# Altium schematic symbol library IC- копия.SchLib: 80 symbols
Pins are listed as number, name and electrical type; pins without a type are passive.

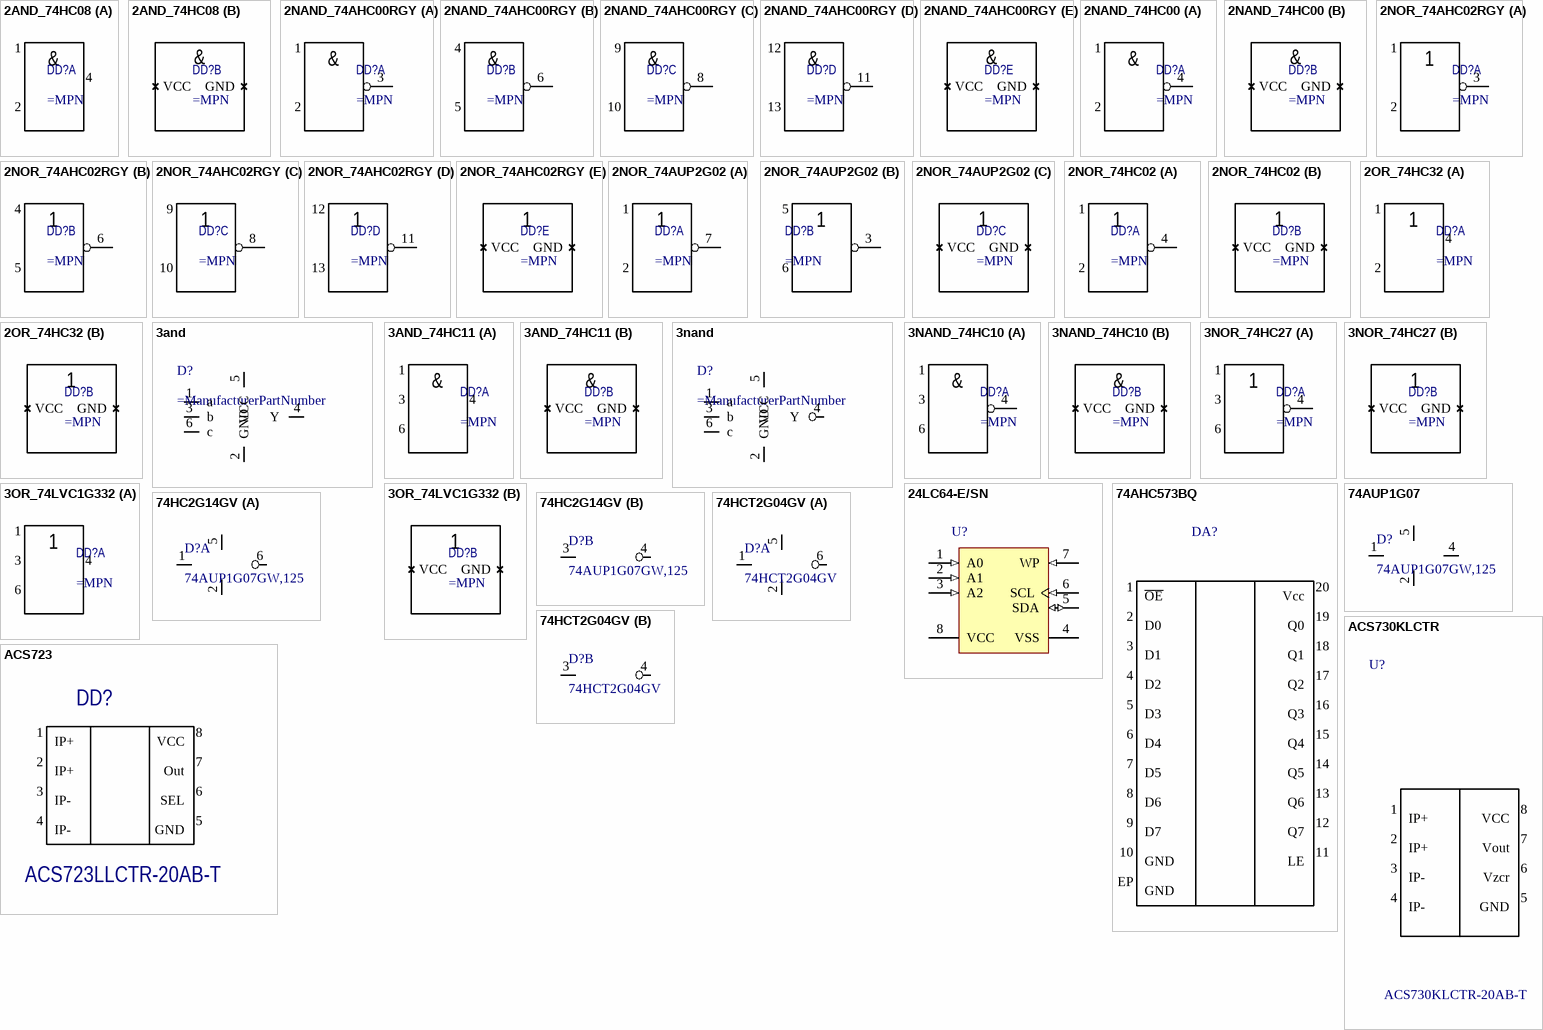
[diagram p0: symbols 2AND_74HC08 to ACS730KLCTR]

## 2AND_74HC08
designator DD?
part A pins: 1, 2, 4
part B pins: 3 GND, 5 VCC
part A text: &
part B text: &

## 2NAND_74AHC00RGY
designator DD?
part A pins: 1, 2, 3
part B pins: 4, 5, 6
part C pins: 8, 9, 10
part D pins: 11, 12, 13
part E pins: 7 GND, 14 VCC
part A text: &
part B text: &
part C text: &
part D text: &
part E text: &

## 2NAND_74HC00
designator DD?
part A pins: 1, 2, 4
part B pins: 3 GND, 5 VCC
part A text: &
part B text: &

## 2NOR_74AHC02RGY
designator DD?
part A pins: 1, 2, 3
part B pins: 4, 5, 6
part C pins: 8, 9, 10
part D pins: 11, 12, 13
part E pins: 7 GND, 14 VCC

## 2NOR_74AUP2G02
designator DD?
part A pins: 1, 2, 7
part B pins: 3, 5, 6
part C pins: 4 GND, 8 VCC

## 2NOR_74HC02
designator DD?
part A pins: 1, 2, 4
part B pins: 3 GND, 5 VCC

## 2OR_74HC32
designator DD?
part A pins: 1, 2, 4
part B pins: 3 GND, 5 VCC

## 3and
designator D?
pins: 1 a, 2 GND, 3 b, 4 Y, 5 VCC, 6 c

## 3AND_74HC11
designator DD?
part A pins: 1, 3, 4, 6
part B pins: 2 GND, 5 VCC
part A text: &
part B text: &

## 3nand
designator D?
pins: 1 a, 2 GND, 3 b, 4 Y, 5 VCC, 6 c

## 3NAND_74HC10
designator DD?
part A pins: 1, 3, 4, 6
part B pins: 2 GND, 5 VCC
part A text: &
part B text: &

## 3NOR_74HC27
designator DD?
part A pins: 1, 3, 4, 6
part B pins: 2 GND, 5 VCC

## 3OR_74LVC1G332
designator DD?
part A pins: 1, 3, 4, 6
part B pins: 2 GND, 5 VCC

## 24LC64-E/SN
designator U?
64Kbit, 400kHz, 2.5V, I2C Serial EEPROM, 8-Pin SOIC 150mil, Extended Temperature; Manufacturer: Microchip; PartNumber: 24LC64-E/SN; DatasheetVersion: revQ, Jun-2009; PackageVersion: revBB, Aug-2009; PackageReference: SOIC-SN8; PackageDescription: 8-Lead Plastic Small Outline (SN) - Narrow, 3.90mm Body [SOIC]; Supplier 1: Digi-Key; Supplier Part Number 1: 24LC64-E/SN-ND; Supplier 2: Newark; Supplier Part Number 2: 92C7217; Supplier 3: Mouser; Supplier Part Number 3: 579-24LC64-E/SN; Mounting Technology: Surface Mount; Code_JEDEC: MS-012; Code_IPC: SOIC127P600-8; ComponentLink1Description: Manufacturer URL; ComponentLink1URL: http://www.microchip.com/; ComponentLink2Description: Datasheet; ComponentLink2URL: http://ww1.microchip.com/downloads/en/DeviceDoc/21189Q.pdf; ComponentLink3Description: Package Specification; ComponentLink3URL: http://www.microchip.com/stellent/groups/techpub_sg/documents/packagingspec/en012702.pdf
footprint SOIC-SN8_N (SOIC, 8-Leads, Body 4.9x3.8mm, Pitch 1.27mm, IPC Medium Density)
footprint SOIC-SN8_L (SOIC, 8-Leads, Body 4.9x3.8mm, Pitch 1.27mm, IPC High Density)
footprint SOIC-SN8_M (SOIC, 8-Leads, Body 4.9x3.8mm, Pitch 1.27mm, IPC Low Density)
footprint SO-8 (SOIC-8N,  IPC Medium Density)
pins: 1 A0 (in), 2 A1 (in), 3 A2 (in), 4 VSS (power), 5 SDA (io), 6 SCL (in), 7 WP (in), 8 VCC (power)

## 74AHC573BQ
designator DA?
pins: 1 ~{OE}, 2 D0, 3 D1, 4 D2, 5 D3, 6 D4, 7 D5, 8 D6, 9 D7, 10 GND, 11 LE, 12 Q7, 13 Q6, 14 Q5, 15 Q4, 16 Q3, 17 Q2, 18 Q1, 19 Q0, 20 Vcc, EP GND

## 74AUP1G07
designator D?, comment 74AUP1G07GW,125
analogue: 74AUP1G07SE-7; ManufacturerPartNumber: 74AUP1G07GW,125; Digikey: https://www.digikey.com/product-detail/en/nexperia-usa-inc/74AUP1G07GW,125/1727-6809-2-ND/1300720
footprint SC70-5 (SC70, IPC Medium Density)
pins: 1 In, 2 GND, 4 OUT, 5 VCC

## 74HC2G14GV
designator D?, comment 74AUP1G07GW,125
analogue: 74AUP1G07SE-7; ManufacturerPartNumber: 74AUP1G07GW,125; Digikey: https://www.digikey.com/product-detail/en/nexperia-usa-inc/74AUP1G07GW,125/1727-6809-2-ND/1300720
footprint sot23-6 (SOT23, 6-Leads, IPC Medium Density)
part A pins: 1 In, 2 GND, 5 VCC, 6 OUT1
part B pins: 3 In, 4 OUT1

## 74HCT2G04GV
designator D?
ManufacturerPartNumber: 74HCT2G04GV; analogue: 74HCT2G04GV; Digikey: https://www.digikey.com/product-detail/en/nexperia-usa-inc/74AUP1G07GW,125/1727-6809-2-ND/1300720
footprint sot23-6 (SOT23, 6-Leads, IPC Medium Density)
part A pins: 1 In, 2 GND, 5 VCC, 6 OUT1
part B pins: 3 In, 4 OUT1

## ACS723
designator DD?, comment ACS723LLCTR-20AB-T
High Accuracy, Galvanically Isolated Current Sensor IC; Component Package: SOIC8; HelpURL: C:\DATASHEET\Sensor\ACS723.pdf; Component Name: ACS723LLCTR-20AB-T
footprint SOIC8 (SOIC, 8-Leads, Body 4,9x3,9mm (max), Pitch 1,27mm, IPC Medium Density)
pins: 1 IP+, 2 IP+, 3 IP-, 4 IP-, 5 GND, 6 SEL, 7 Out, 8 VCC

## ACS730KLCTR
designator U?, comment ACS730KLCTR-20AB-T
Galvanically Isolated Current Sensor IC; MPN: ACS730KLCTR-20AB-T
footprint SO-8 (SOIC-8N,  IPC Medium Density)
pins: 1 IP+, 2 IP+, 3 IP-, 4 IP-, 5 GND, 6 Vzcr, 7 Vout, 8 VCC

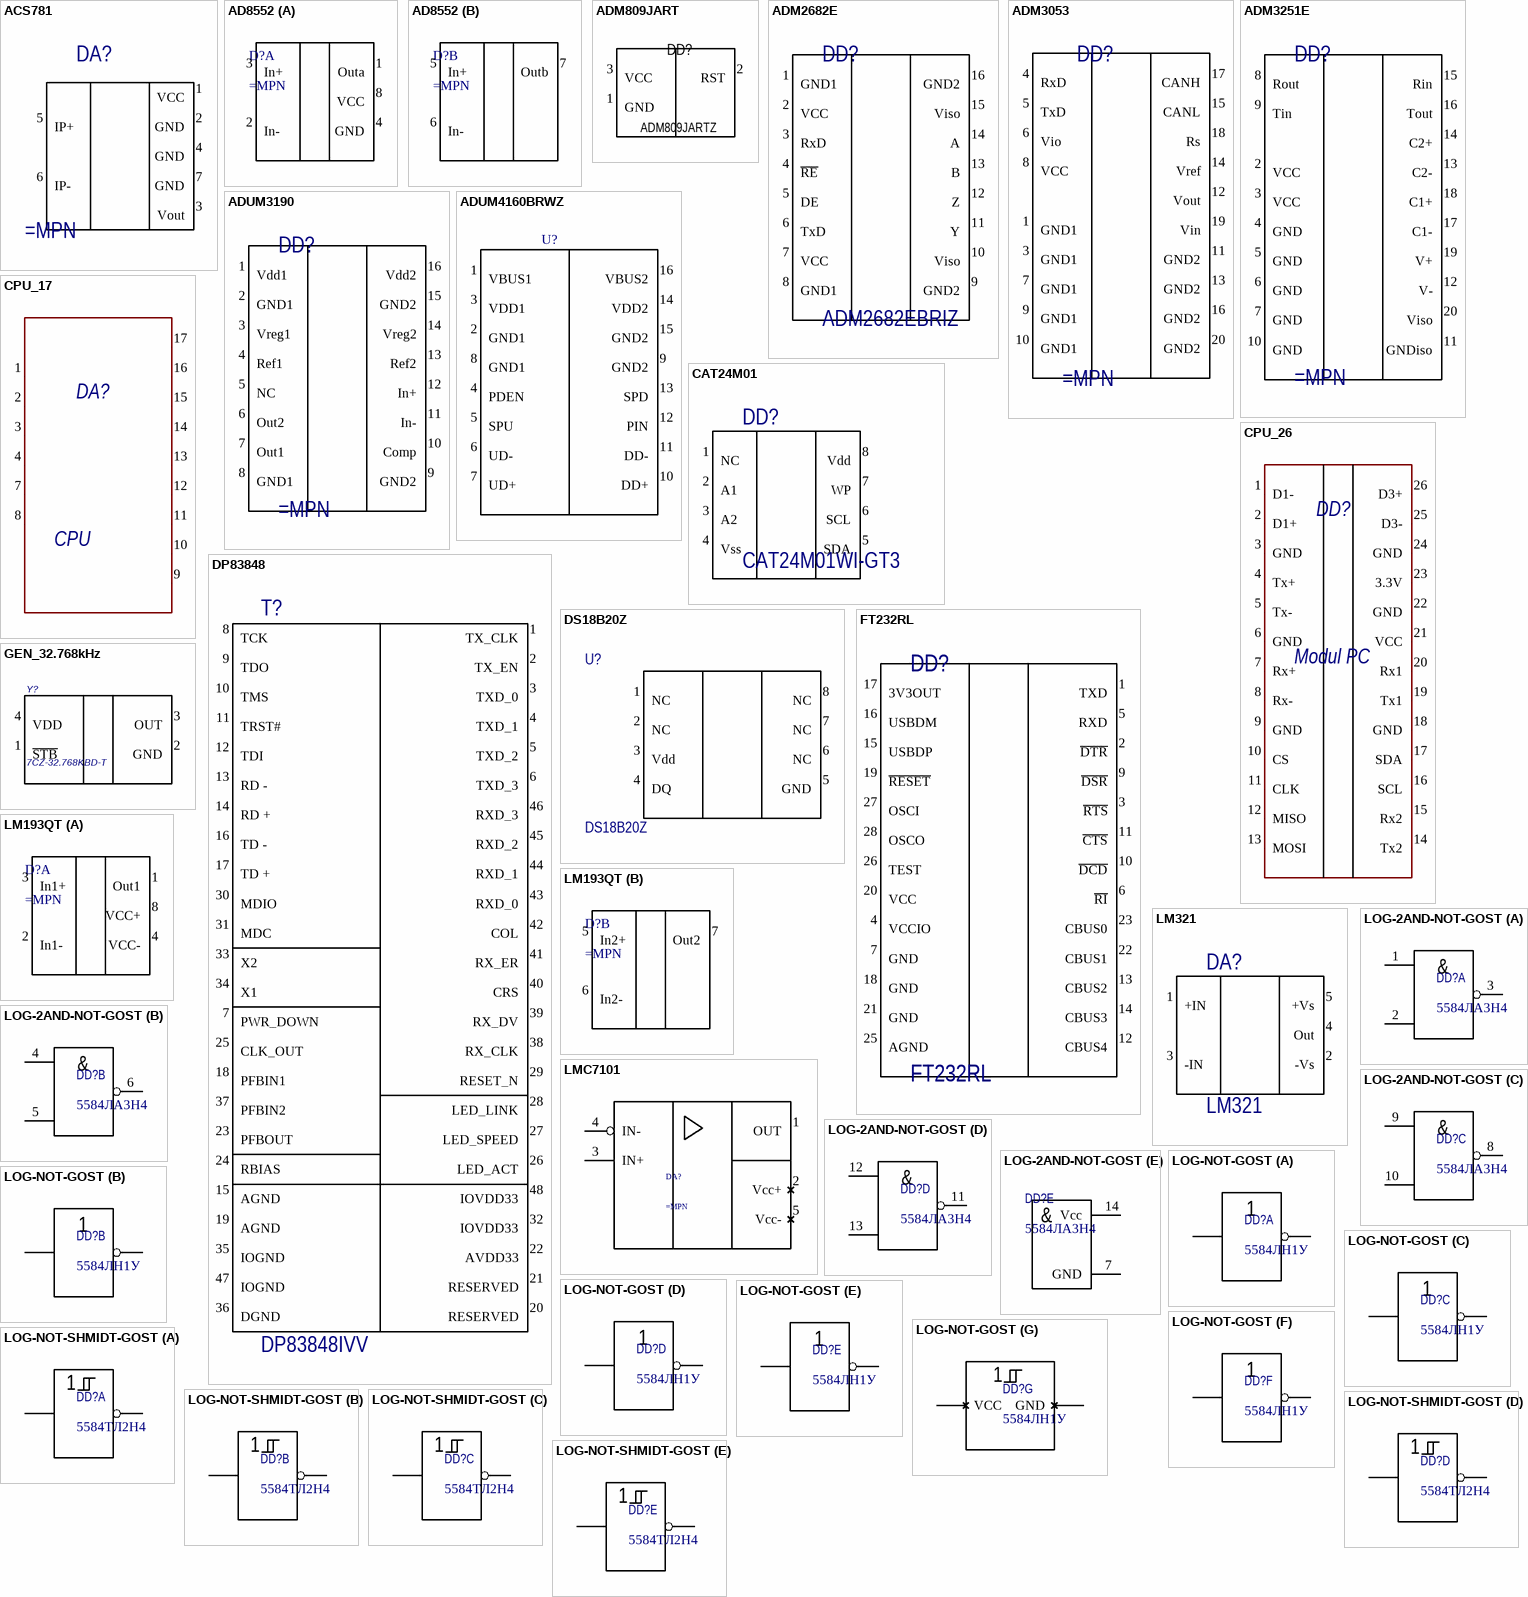
[diagram p1: symbols ACS781 to LOG-NOT-SHMIDT-GOST]

## ACS781
designator DA?
pins: 1 VCC, 2 GND, 3 Vout, 4 GND, 5 IP+, 6 IP-, 7 GND

## AD8552
designator D?
part A pins: 1 Outa, 2 In-, 3 In+, 4 GND, 8 VCC
part B pins: 5 In+, 6 In-, 7 Outb

## ADM809JART
designator DD?, comment ADM809JARTZ
Микросхема ADM809ZART Analog Devices; MPN: ADM809JARTZ
footprint SOT23-3 (SOT23-3, IPC Medium Density)
pins: 1 GND, 2 RST, 3 VCC

## ADM2682E
designator DD?, comment ADM2682EBRIZ
Signal and Power Isolated / RS-485 Transceiver; Component Package: SOIC16 Narrow 3.90mm Width; Component Name: ADM2682EBRIZ; HelpURL: C:\DATASHEET\Driver\ADM2682E.pdf; ComponentLink1Description: DataSheet; ComponentLink1URL: C:\DATASHEET\Driver\ADM2682E.pdf
footprint SOIC16 (max232) (16-Pin Small Outline Integrated Circuit 1.27 mm Pitch, IPC Medium Density)
pins: 1 GND1 "Ground, Logic Side.", 2 VCC "Logic Side Power Supply", 3 RxD "Receiver Output Data", 4 ~{RE} "Receiver Enable Input", 5 DE "Driver Enable Input", 6 TxD "Driver Input", 7 VCC "Logic Side Power Supply", 8 GND1 "Ground, Logic Side", 9 GND2 "Ground, Bus Side", 10 Viso "Isolated Power Supply Output", 11 Y "Driver Noninverting Output", 12 Z "Driver Inverting Output", 13 B "Receiver Inverting Input", 14 A "Receiver Noninverting Input", 15 Viso "Isolated Power Supply Input", 16 GND2 "Ground, Bus Side"

## ADM3053
designator DD?
Isolated CAN Transceiver; Component Name: ADM3053BRWZ; Component Package: SOIC, 20-Leads, Body 12,80x7,50mm, Pitch 1,27mm, IPC Medium Density; HelpURL: C:\DATASHEET\Driver\ADM3053.pdf; ComponentLink1Description: DataSheet; ComponentLink1URL: C:\DATASHEET\Driver\ADM3053.pdf
footprint SOIC20 (SOIC, 20-Leads, Body 12,80x7,50mm, Pitch 1,27mm, IPC Medium Density)
pins: 1 GND1 "Ground, Logic Side.", 2 NC (hiz) hidden "No Connect", 3 GND1 "Ground, Logic Side.", 4 RxD "Receiver Output Data.C2+", 5 TxD "C2-", 6 Vio "iCoupler Power Supply", 7 GND1 "Ground, Logic Side.", 8 VCC "Power Supply", 9 GND1 "Ground, Logic Side.", 10 GND1 "Ground, Logic Side.", 11 GND2 "Ground, Logic Side.", 12 Vout "Power Supply Output", 13 GND2 "Ground, Logic Side.", 14 Vref "Reference Voltage Output", 15 CANL "Low-Level CAN Voltage Input/Output", 16 GND2 "Ground, Logic Side.", 17 CANH "High-Level CAN Voltage Input/Output", 18 Rs "Slope Control Pin", 19 Vin "Isolated Power Supply Input", 20 GND2 "Ground, Logic Side."

## ADM3251E
designator DD?
Isolated, Single-Channel / RS-232 Line Driver/Receiver; Component Name: ADM3251EARWZ; Component Package: SOIC, 20-Leads, Body 12,80x7,50mm, Pitch 1,27mm, IPC Medium Density; HelpURL: C:\DATASHEET\Driver\ADM3251E.pdf; ComponentLink1Description: DataSheet; ComponentLink1URL: C:\DATASHEET\Driver\ADM3251E.pdf
footprint SOIC20 (SOIC, 20-Leads, Body 12,80x7,50mm, Pitch 1,27mm, IPC Medium Density)
pins: 1 NC hidden "Ground, Logic Side.", 2 NC (hiz) hidden "No Connect", 2 VCC "Power Supply Input", 3 VCC "Power Supply Input", 4 GND "Ground,", 5 GND "Ground", 6 GND "Ground", 7 GND "Ground", 8 Rout "Receiver Output", 9 Tin "Transmitter (Driver) Input", 10 GND "Ground", 11 GNDiso "Ground Reference for Isolated RS-232 Side.", 12 V- "Internally Generated Negative Supply", 13 C2- "Negative Connections for Charge Pump Capacitors", 14 C2+ "Positive Connections for Charge Pump Capacitors", 15 Rin "Receiver Input. This input accepts RS-232 signal levels.", 16 Tout "Transmitter (Driver) Output. This outputs RS-232 signal levels.", 17 C1- "Negative Connections for Charge Pump Capacitors.", 18 C1+ "Positive Connections for Charge Pump Capacitors.", 19 V+ "Internally Generated Positive Supply", 20 Viso "Isolated Supply Voltage"

## ADUM3190
designator DD?
ComponentLink1Description: DataSheet; ComponentLink1URL: C:\DATASHEET\Driver\ADM2682E.pdf
pins: 1 Vdd1 "Ground, Logic Side.", 2 GND1 "Logic Side Power Supply", 3 Vreg1 "Receiver Output Data", 4 Ref1 "Receiver Enable Input", 5 NC "Driver Enable Input", 6 Out2 "Driver Input", 7 Out1 "Logic Side Power Supply", 8 GND1 "Ground, Logic Side", 9 GND2 "Ground, Bus Side", 10 Comp "Isolated Power Supply Output", 11 In- "Driver Noninverting Output", 12 In+ "Driver Inverting Output", 13 Ref2 "Receiver Inverting Input", 14 Vreg2 "Receiver Noninverting Input", 15 GND2 "Isolated Power Supply Input", 16 Vdd2 "Ground, Bus Side"

## ADUM4160BRWZ
designator U?  (value not drawn)
Digital isolator; 3.1Г·5.5VDC; Interface: USB; SMD; SO16; MPN: ADUM4160BRWZ
footprint SOIC16W (ADUM4160_SOIC127P1032X265-16)
pins: 1 VBUS1, 2 GND1, 3 VDD1, 4 PDEN, 5 SPU, 6 UD-, 7 UD+, 8 GND1, 9 GND2, 10 DD+, 11 DD-, 12 PIN, 13 SPD, 14 VDD2, 15 GND2, 16 VBUS2

## CAT24M01
designator DD?, comment CAT24M01WI-GT3
IC EEPROM 1M I2C 1MHZ 8SOIC; Component Package: DFN-8; MPN: CAT24M01WI-GT3
footprint SO-8 (SOIC-8N,  IPC Medium Density)
pins: 1 NC "Noninverting input", 2 A1 "Noninverting input", 3 A2 "Noninverting input", 4 Vss "Noninverting input", 5 SDA "Noninverting input", 6 SCL "Noninverting input", 7 WP "Noninverting input", 8 Vdd "Positive (highest) power supply"

## CPU_17
designator DA?, comment CPU
Модуль вычислительный
footprint PWR100W (один выход)
pins: 1, 2, 3, 4, 7, 8, 9, 10, 11, 12, 13, 14, 15, 16, 17

## CPU_26
designator DD?, comment Modul PC
Модуль вычислительный; MPN: Modul PC
footprint PWR100W_26pin (Modul CPU 26 PIN)
pins: 1 D1- "USB1 D-", 2 D1+ "USB1 D+", 3 GND, 4 Tx+ "Eth pin1", 5 Tx- "Eth pin2", 6 GND, 7 Rx+ "Eth pin4", 8 Rx- "Eth pin4", 9 GND, 10 CS "SPi1 chip select", 11 CLK "SPi1 Clock", 12 MISO "SPi MISO", 13 MOSI "SPi MOSI", 14 Tx2 "UART2 Tx", 15 Rx2 "UART2 Rx", 16 SCL "I2C0 SCL", 17 SDA "I2C0 SDA", 18 GND, 19 Tx1 "UART1 Tx", 20 Rx1 "UART1 Rx", 21 VCC "input 5V PWR", 22 GND, 23 3.3V "output 3v3 up to 700mA", 24 GND, 25 D3- "USB3 D-", 26 D3+ "USB3 D+"

## DP83848
designator T?, comment DP83848IVV
Ethernet Physical Layer Transceiver; Component Package: LQFP48; Component Name: DP83848IVV; HelpURL: C:\DATASHEET\Ethernet\snla106b.pdf; ComponentLink1Description: DataSheet; ComponentLink1URL: C:\DATASHEET\Ethernet\dp83848i.pdf
footprint LQFP48 (SQFP, 48-Leads, Body 9,1x9,1mm (max), Pitch 0,50mm, IPC Medium Density)
pins: 1 TX_CLK, 2 TX_EN, 3 TXD_0, 4 TXD_1, 5 TXD_2, 6 TXD_3 "TXD_3/SNI_MODE", 7 PWR_DOWN "PWR_DOWN/INT", 8 TCK, 9 TDO, 10 TMS, 11 TRST#, 12 TDI, 13 RD -, 14 RD +, 15 AGND, 16 TD -, 17 TD +, 18 PFBIN1, 19 AGND, 20 RESERVED, 21 RESERVED, 22 AVDD33, 23 PFBOUT, 24 RBIAS, 25 CLK_OUT, 26 LED_ACT "LED_ACT/COL/AN_EN", 27 LED_SPEED "LED_SPEED/AN1", 28 LED_LINK "LED_LINK/AN0", 29 RESET_N, 30 MDIO, 31 MDC, 32 IOVDD33, 33 X2, 34 X1, 35 IOGND, 36 DGND, 37 PFBIN2, 38 RX_CLK, 39 RX_DV "RX_DV/MII_MODE", 40 CRS "CRS/CRS_DV/LED_CFG", 41 RX_ER "RX_ER/MDIX_EN", 42 COL "COL/PHYAD0", 43 RXD_0 "RXD_0/PHYAD1", 44 RXD_1 "RXD_1/PHYAD2", 45 RXD_2 "RXD_2/PHYAD3", 46 RXD_3 "RXD_3/PHYAD4", 47 IOGND, 48 IOVDD33

## DS18B20Z
designator U?
MPN: DS18B20Z
footprint SO8_M (SOIC, 8-Leads, Body 4.9x3.9mm, Pitch 1.27mm, IPC Low Density)
pins: 1 NC, 2 NC, 3 Vdd, 4 DQ, 5 GND, 6 NC, 7 NC, 8 NC

## FT232RL
designator DD?
FT232RQ (SSOP-28); MPN: FT232RL
footprint SSOP-28 (SOP, 28-Leads, Body 10,5x5,3mm (max), Pitch 0,65mm, IPC Medium Density)
pins: 1 TXD, 2 ~{DTR} "DTR", 3 ~{RTS} "RTS", 4 VCCIO, 5 RXD, 6 ~{RI} "RI", 7 GND, 8 NC (hiz) hidden, 9 ~{DSR} "DSR", 10 ~{DCD} "DCD", 11 ~{CTS} "CTS", 12 CBUS4, 13 CBUS2, 14 CBUS3, 15 USBDP, 16 USBDM, 17 3V3OUT, 18 GND, 19 ~{RESET} "RESET", 20 VCC, 21 GND, 22 CBUS1, 23 CBUS0, 24 NC (hiz) hidden, 25 AGND, 26 TEST, 27 OSCI, 28 OSCO

## GEN_32.768kHz
designator Y?, comment 7CZ-32.768KBD-T
Value: 32.768kHz; Operating Temperature: -40°C ~ 85°C; MPN: 7CZ-32.768KBD-T
footprint 3.2x2.5 (KX7T)
footprint 5x3.2 (Footprint not found)
pins: 1 ~{STB}, 2 GND, 3 OUT, 4 VDD

## LM193QT
designator D?
part A pins: 1 Out1, 2 In1-, 3 In1+, 4 VCC-, 8 VCC+
part B pins: 5 In2+, 6 In2-, 7 Out2

## LM321
designator DA?
Low Power Single Operational Amplifier (SOT-23); Component Name: LM321MF; Component Package: SOT-23; HelpURL: C:\DATASHEET\OP_AMP\lm321.pdf
footprint SOT23-5 (SOT23, 5-Leads, Body 2,92x2,80mm, Pitch 0,95mm, IPC Medium Density)
pins: 1 +IN "Noninverting input", 2 -Vs "Negative (lowest) power supply", 3 -IN "Inverting input", 4 Out "Output", 5 +Vs "Positive (highest) power supply"

## LMC7101
designator DA?
pins: 1 OUT, 2 Vcc+, 3 IN+, 4 IN-, 5 Vcc-

## LOG-2AND-NOT-GOST
designator DD?, comment 5584ЛА3Н4
MPN: 5584ЛА3Н4
part A pins: 1, 2, 3
part B pins: 4, 5, 6
part C pins: 8, 9, 10
part D pins: 11, 12, 13
part E pins: 7 GND (power), 14 Vcc
part A text: &
part B text: &
part C text: &
part D text: &
part E text: &

## LOG-NOT-GOST
designator DD?, comment 5584ЛН1У
MPN: 5584ЛН1У
part A pins: I4 7, O4 8
part B pins: I1 1, O1 2
part C pins: I5 9, O5 10
part D pins: I6 11, O6 12
part E pins: I2 3, O2 4
part F pins: I3 5, O3 6
part G pins: 7 GND, 14 VCC

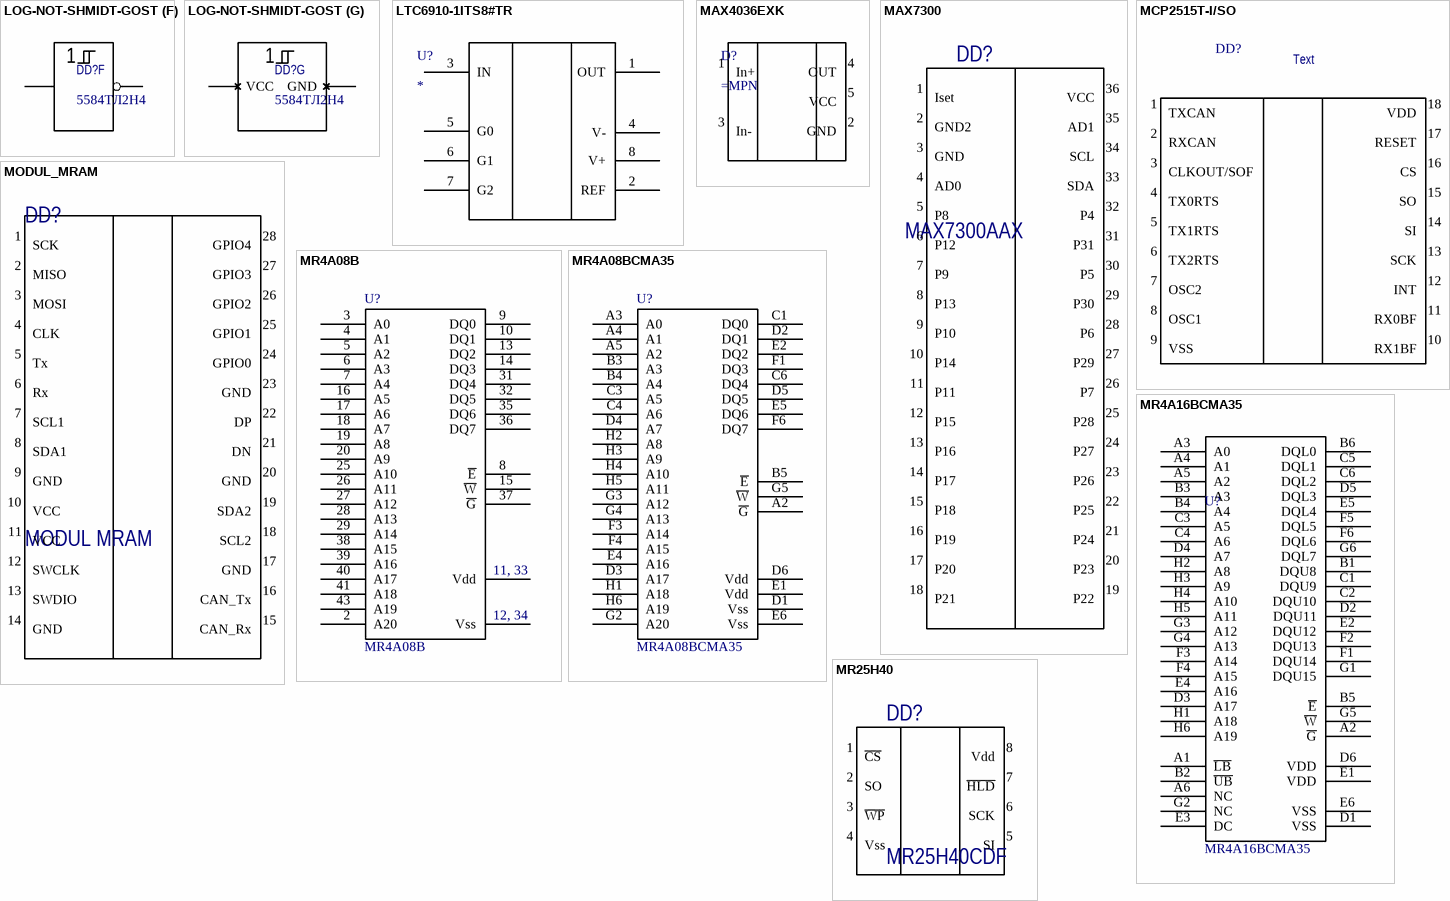
[diagram p2: symbols LOG-NOT-SHMIDT-GOST to MR25H40]

## LOG-NOT-SHMIDT-GOST
designator DD?, comment 5584ТЛ2Н4
MPN: 5584ТЛ2Н4
part A pins: I4 7, O4 8
part B pins: I1 1, O1 2
part C pins: I5 9, O5 10
part D pins: I6 11, O6 12
part E pins: I2 3, O2 4
part F pins: I3 5, O3 6
part G pins: 7 GND, 14 VCC

## LTC6910-1ITS8#TR
designator U?
Imported; Manufacturer_Part_Number: LTC6910-1ITS8#TRMPBF; Built_By: EMA_UL_Team; Vendor: Linear Technology; Value: Value; Type: Type; RefDes: RefDes
footprint TSOP23-8 (TSOP, 8-Leads, Body 2,90x1,75mm, Pitch 0,65mm, IPC High Density)
pins: 1 OUT, 2 REF (power), 3 IN, 4 V- (power), 5 G0, 6 G1, 7 G2, 8 V+ (power)

## MAX4036EXK
designator D?
pins: 1 In+, 2 GND, 3 In-, 4 OUT, 5 VCC

## MAX7300
designator DD?, comment MAX7300AAX
28-Port I/O Expander 2-Wire-Interfaced, 2.5V to 5.5V; MPN: MAX7300AAX
footprint SSOP36 (MAX7300, MAX7301)
pins: 1 Iset (power), 2 GND2 (power), 3 GND (power), 4 AD0 (power), 5 P8 (power), 6 P12 (power), 7 P9 (power), 8 P13 (power), 9 P10 (power), 10 P14 (power), 11 P11 (power), 12 P15 (power), 13 P16 (power), 14 P17 (power), 15 P18 (power), 16 P19 (power), 17 P20 (power), 18 P21 (power), 19 P22 (power), 20 P23 (power), 21 P24 (power), 22 P25 (power), 23 P26 (power), 24 P27 (power), 25 P28 (power), 26 P7 (power), 27 P29 (power), 28 P6 (power), 29 P30 (power), 30 P5 (power), 31 P31 (power), 32 P4 (power), 33 SDA (power), 34 SCL (power), 35 AD1 (power), 36 VCC (power)

## MCP2515T-I/SO
designator DD?
pins: 1 TXCAN, 2 RXCAN, 3 CLKOUT/SOF, 4 TX0RTS, 5 TX1RTS, 6 TX2RTS, 7 OSC2, 8 OSC1, 9 VSS, 10 RX1BF, 11 RX0BF, 12 INT, 13 SCK, 14 SI, 15 SO, 16 CS, 17 RESET, 18 VDD
text: Text

## MODUL_MRAM
designator DD?, comment MODUL MRAM
MPN: MODUL MRAM
footprint MODUL_MRAM
pins: 1 NC hidden "Ground, Logic Side.", 1 SCK "SPi1_SCK", 2 NC (hiz) hidden "No Connect", 2 MISO "SPi1_MISO", 3 MOSI "SPi1_MOSI", 4 CLK "USART1_SCK", 5 Tx "USART1_Tx", 6 Rx "USART1_Rx", 7 SCL1, 8 SDA1, 9 GND, 10 VCC "3v3", 11 VCC "3v3", 12 SWCLK, 13 SWDIO, 14 GND, 15 CAN_Rx, 16 CAN_Tx, 17 GND, 18 SCL2, 19 SDA2, 20 GND, 21 DN "USB D-", 22 DP "USB D+", 23 GND, 24 GPIO0 "GPIO", 25 GPIO1 "GPIO", 26 GPIO2 "Receiver Input. This input accepts RS-232 signal levels.", 27 GPIO3 "GPIO", 28 GPIO4 "GPIO"

## MR4A08B
designator U?
EverSpin 2M x 8 bit MRAM; Vdd: 3.0...3.6V; Tread: 35ns
footprint 44-TSOP2
pins: 2 A20, 3 A0, 4 A1, 5 A2, 6 A3, 7 A4, 8 ~{E}, 9 DQ0, 10 DQ1, 11 Vdd, 12 Vss, 13 DQ2, 14 DQ3, 15 ~{W}, 16 A5, 17 A6, 18 A7, 19 A8, 20 A9, 25 A10, 26 A11, 27 A12, 28 A13, 29 A14, 31 DQ4, 32 DQ5, 33 Vdd, 34 Vss, 35 DQ6, 36 DQ7, 37 ~{G}, 38 A15, 39 A16, 40 A17, 41 A18, 43 A19
text: 11, 33; 12, 34

## MR4A08BCMA35
designator U?
EverSpin 2M x 8 bit MRAM; Vdd: 3.0...3.6V; Tread: 35ns; MPN: MR4A08BCMA35; URL: https://www.everspin.com/search/google/MR4A08BC
footprint 48BGA10X10 (BGA, 48-Leads, Body 10.00x10.00mmx1.35mm, Pitch 0.75mm)
pins: A1 DC hidden, A2 ~{G}, A3 A0, A4 A1, A5 A2, A6 DC hidden, B1 NC hidden, B2 DC hidden, B3 A3, B4 A4, B5 ~{E}, B6 DC hidden, C1 DQ0, C2 NC hidden, C3 A5, C4 A6, C5 NC hidden, C6 DQ4, D1 Vss, D2 DQ1, D3 A17, D4 A7, D5 DQ5, D6 Vdd, E1 Vdd, E2 DQ2, E3 DC hidden, E4 A16, E5 DQ6, E6 Vss, F1 DQ3, F2 NC hidden, F3 A14, F4 A15, F5 NC hidden, F6 DQ7, G1 NC hidden, G2 A20, G3 A12, G4 A13, G5 ~{W}, G6 NC hidden, H1 A18, H2 A8, H3 A9, H4 A10, H5 A11, H6 A19

## MR4A16BCMA35
designator U?
EverSpin 2M x 8 bit MRAM; Vdd: 3.0...3.6V; Tread: 35ns; MPN: MR4A16BCMA35; URL: https://www.everspin.com/family/mr4a16b
footprint 48BGA10X10 (BGA, 48-Leads, Body 10.00x10.00mmx1.35mm, Pitch 0.75mm)
pins: A1 ~{LB}, A2 ~{G}, A3 A0, A4 A1, A5 A2, A6 NC, B1 DQU8, B2 ~{UB}, B3 A3, B4 A4, B5 ~{E}, B6 DQL0, C1 DQU9, C2 DQU10, C3 A5, C4 A6, C5 DQL1, C6 DQL2, D1 VSS, D2 DQU11, D3 A17, D4 A7, D5 DQL3, D6 VDD, E1 VDD, E2 DQU12, E3 DC, E4 A16, E5 DQL4, E6 VSS, F1 DQU14, F2 DQU13, F3 A14, F4 A15, F5 DQL5, F6 DQL6, G1 DQU15, G2 NC, G3 A12, G4 A13, G5 ~{W}, G6 DQL7, H1 A18, H2 A8, H3 A9, H4 A10, H5 A11, H6 A19

## MR25H40
designator DD?, comment MR25H40CDF
Component Package: DFN-8; Component Name: MR25H40; HelpURL: C:\DATASHEET\OP_AMP\lm321.pdf; MPN: MR25H40CDF
footprint DFN-SFP (DFN Small Flag Package)
pins: 1 ~{CS} "Noninverting input", 2 SO "Noninverting input", 3 ~{WP} "Noninverting input", 4 Vss "Noninverting input", 5 SI "Noninverting input", 6 SCK "Noninverting input", 7 ~{HLD} "Noninverting input", 8 Vdd "Positive (highest) power supply"

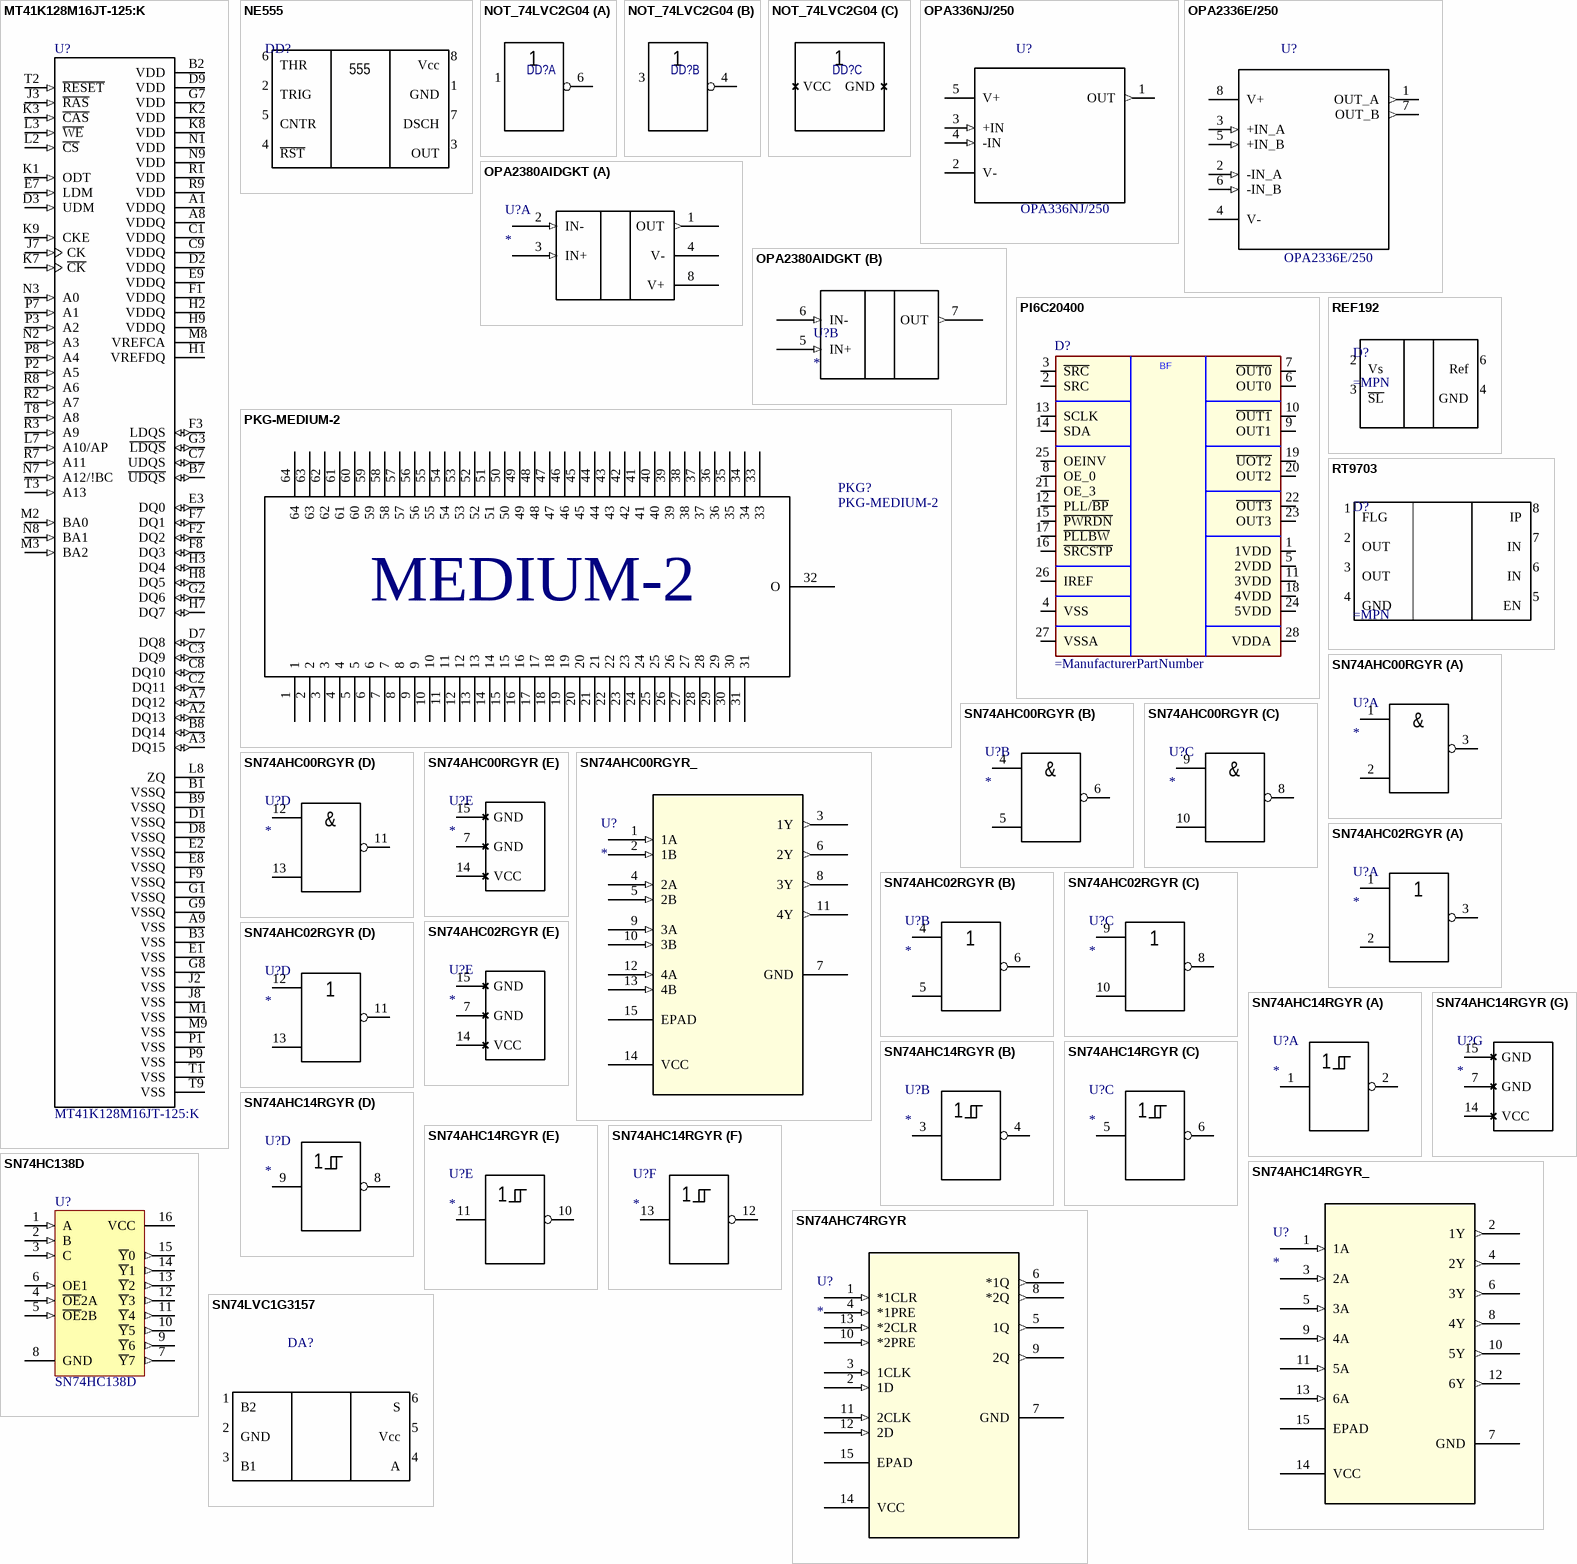
[diagram p3: symbols MT41K128M16JT-125:K to SN74LVC1G3157]

## MT41K128M16JT-125:K
designator U?
DRAM Chip DDR3L SDRAM 2G-Bit 128Mx16 1.35V 96-Pin FBGA; MF: Micron Technology; Package: TFBGA-96 Micron; Price: 4.85 USD; MP: MT41K128M16JT-125:K; SnapEDA_Link: https://www.snapeda.com/parts/MT41K128M16JT-125%3AK/Micron%20Technology%20Inc/view-part/?ref=snap; Availability: Good; Value: *
footprint BGA80P96C6X16_800X1400X110_MT41K128M16JT-125:K(Primary)
pins: A1 VDDQ (power), A2 DQ13 (io), A3 DQ15 (io), A7 DQ12 (io), A8 VDDQ (power), A9 VSS, B1 VSSQ, B2 VDD (power), B3 VSS, B7 ~{UDQS} (io), B8 DQ14 (io), B9 VSSQ, C1 VDDQ (power), C2 DQ11 (io), C3 DQ9 (io), C7 UDQS (io), C8 DQ10 (io), C9 VDDQ (power), D1 VSSQ, D2 VDDQ (power), D3 UDM (in), D7 DQ8 (io), D8 VSSQ, D9 VDD (power), E1 VSS, E2 VSSQ, E3 DQ0 (io), E7 LDM (in), E8 VSSQ, E9 VDDQ (power), F1 VDDQ (power), F2 DQ2 (io), F3 LDQS (io), F7 DQ1 (io), F8 DQ3 (io), F9 VSSQ, G1 VSSQ, G2 DQ6 (io), G3 ~{LDQS} (io), G7 VDD (power), G8 VSS, G9 VSSQ, H1 VREFDQ (power), H2 VDDQ (power), H3 DQ4 (io), H7 DQ7 (io), H8 DQ5 (io), H9 VDDQ (power), J2 VSS, J3 ~{RAS} (in), J7 CK (in), J8 VSS, K1 ODT (in), K2 VDD (power), K3 ~{CAS} (in), K7 ~{CK} (in), K8 VDD (power), K9 CKE (in), L2 ~{CS} (in), L3 ~{WE} (in), L7 A10/AP (in), L8 ZQ, M1 VSS, M2 BA0 (in), M3 BA2 (in), M8 VREFCA (power), M9 VSS, N1 VDD (power), N2 A3 (in), N3 A0 (in), N7 A12/!BC (in), N8 BA1 (in), N9 VDD (power), P1 VSS, P2 A5 (in), P3 A2 (in), P7 A1 (in), P8 A4 (in), P9 VSS, R1 VDD (power), R2 A7 (in), R3 A9 (in), R7 A11 (in), R8 A6 (in), R9 VDD (power), T1 VSS, T2 ~{RESET} (in), T3 A13 (in), T8 A8 (in), T9 VSS

## NE555
designator DD?
pins: 1 GND, 2 TRIG, 3 OUT, 4 ~{RST}, 5 CNTR, 6 THR, 7 DSCH, 8 Vcc
text: 555

## NOT_74LVC2G04
designator DD?
part A pins: 1, 6
part B pins: 3, 4
part C pins: 2 GND, 5 VCC

## OPA336NJ/250
designator U?
Single-Supply, MicroPower CMOS Operational Amplifiers MicroAmplifier(TM) Series 5-SOT-23 -40 to 85; MF: Texas Instruments; Package: SOT-23-5 Texas Instruments; MP: OPA336NJ/250; Availability: Warning; SnapEDA_Link: https://www.snapeda.com/symbols-footprints/OPA336NJ/250/Texas%20Instruments/view-part/?ref=snap; Price: 0.91 USD; Value: *
footprint SOT95P280X145-5N
footprint sot23-5 (SOT23, 6-Leads, IPC Medium Density)
pins: 1 OUT (out), 2 V- (power), 3 +IN (in), 4 -IN (in), 5 V+ (power)

## OPA2336E/250
designator U?
OP Amp Dual GP R-R O/P 5.5V 8-Pin VSSOP T/R; MF: Burr Brown; MP: OPA2336E250; Package: None; Availability: Unavailable; SnapEDA_Link: https://www.snapeda.com/symbols-footprints/OPA2336E250/Burr%20Brown/view-part/?ref=snap; Price: None; Value: *
footprint TSOP8 (TSOP, 8-Leads, Body 3,10x3,10mm, Pitch 0,65mm, IPC High Density)
pins: 1 OUT_A (out), 2 -IN_A (in), 3 +IN_A (in), 4 V- (power), 5 +IN_B (in), 6 -IN_B (in), 7 OUT_B (out), 8 V+ (power)

## OPA2380AIDGKT
designator U?
Imported; Manufacturer: Texas Instruments; Manufacturer_Part_Number: OPA2380AIDGKT; Built_By: EMA_UL_Team; Vendor: Texas Instruments; Value: Value; Type: Type; RefDes: RefDes
footprint TSOP8 (TSOP, 8-Leads, Body 3,10x3,10mm, Pitch 0,65mm, IPC High Density)
part A pins: 1 OUT (out), 2 IN- (in), 3 IN+ (in), 4 V- (power), 8 V+ (power)
part B pins: 5 IN+ (in), 6 IN- (in), 7 OUT (out)

## PI6C20400
designator D?
pins: 1 1VDD, 2 SRC, 3 ~{SRC}, 4 VSS, 5 2VDD, 6 OUT0, 7 ~{OUT0}, 8 OE_0, 9 OUT1, 10 ~{OUT1}, 11 3VDD, 12 PLL/~{BP}, 13 SCLK, 14 SDA, 15 ~{PWRDN}, 16 ~{SRCSTP}, 17 ~{PLLBW}, 18 4VDD, 19 ~{UOT2}, 20 OUT2, 21 OE_3, 22 ~{OUT3}, 23 OUT3, 24 5VDD, 25 OEINV, 26 IREF, 27 VSSA, 28 VDDA
text: BF

## PKG-MEDIUM-2
designator PKG?
ZPP MeCer MEDIUM-2
footprint PKG-MEDIUM-2
pins: 1, 2, 3, 4, 5, 6, 7, 8, 9, 10, 11, 12, 13, 14, 15, 16, 17, 18, 19, 20, 21, 22, 23, 24, 25, 26, 27, 28, 29, 30, 31, 32 O, 33, 34, 35, 36, 37, 38, 39, 40, 41, 42, 43, 44, 45, 46, 47, 48, 49, 50, 51, 52, 53, 54, 55, 56, 57, 58, 59, 60, 61, 62, 63, 64
text: MEDIUM-2

## REF192
designator D?
pins: 2 Vs, 3 ~{SL}, 4 GND, 6 Ref

## RT9703
designator D?
pins: 1 FLG, 2 OUT, 3 OUT, 4 GND, 5 EN, 6 IN, 7 IN, 8 IP

## SN74AHC00RGYR
designator U?
Imported; Manufacturer: Texas Instruments; GENERIC_PART_NUMBER: SN74AHC00; Manufacturer_Part_Number: SN74AHC00RGYR; INDUSTRY_STD_PKG_TYPE: VQFN; FAMILY_NAME: NAND GATE; PIN_COUNT: 14; PACKAGE_DESIGNATOR: RGY; 3D_Library_Name: TI_AllParts_2012-12-25; Datasheet_URL: http://www.ti.com/lit/gpn/SN74AHC00; Vendor: Texas Instruments; Copyright: Copyright (C) 2015 Accelerated Designs. All rights reserved; Value: Value; Type: Type; RefDes: RefDes
footprint RGY14_2P05X2P05
footprint RGY0014A_V (QFN, 14-Leads, Body 3.5x3.5mm, Thermal Pad 2.05x2.05mm, TI Recommend)
part A pins: 1, 2, 3
part B pins: 4, 5, 6
part C pins: 8, 9, 10
part D pins: 11, 12, 13
part E pins: 7 GND, 14 VCC, 15 GND
part A text: &
part B text: &
part C text: &
part D text: &

## SN74AHC00RGYR_
designator U?
Imported; Manufacturer: Texas Instruments; GENERIC_PART_NUMBER: SN74AHC00; Manufacturer_Part_Number: SN74AHC00RGYR; INDUSTRY_STD_PKG_TYPE: VQFN; FAMILY_NAME: NAND GATE; PIN_COUNT: 14; PACKAGE_DESIGNATOR: RGY; 3D_Library_Name: TI_AllParts_2012-12-25; Datasheet_URL: http://www.ti.com/lit/gpn/SN74AHC00; Vendor: Texas Instruments; Copyright: Copyright (C) 2015 Accelerated Designs. All rights reserved; Value: Value; Type: Type; RefDes: RefDes
footprint RGY14_2P05X2P05
footprint RGY0014A_V (QFN, 14-Leads, Body 3.5x3.5mm, Thermal Pad 2.05x2.05mm, TI Recommend)
pins: 1 1A (in), 2 1B (in), 3 1Y (out), 4 2A (in), 5 2B (in), 6 2Y (out), 7 GND (power), 8 3Y (out), 9 3A (in), 10 3B (in), 11 4Y (out), 12 4A (in), 13 4B (in), 14 VCC (power), 15 EPAD

## SN74AHC02RGYR
designator U?
Imported; Manufacturer: Texas Instruments; GENERIC_PART_NUMBER: SN74AHC00; Manufacturer_Part_Number: SN74AHC00RGYR; INDUSTRY_STD_PKG_TYPE: VQFN; FAMILY_NAME: NAND GATE; PIN_COUNT: 14; PACKAGE_DESIGNATOR: RGY; 3D_Library_Name: TI_AllParts_2012-12-25; Datasheet_URL: http://www.ti.com/lit/gpn/SN74AHC00; Vendor: Texas Instruments; Copyright: Copyright (C) 2015 Accelerated Designs. All rights reserved; Value: Value; Type: Type; RefDes: RefDes
footprint RGY14_2P05X2P05
footprint RGY0014A_V (QFN, 14-Leads, Body 3.5x3.5mm, Thermal Pad 2.05x2.05mm, TI Recommend)
part A pins: 1, 2, 3
part B pins: 4, 5, 6
part C pins: 8, 9, 10
part D pins: 11, 12, 13
part E pins: 7 GND, 14 VCC, 15 GND

## SN74AHC14RGYR
designator U?
Imported; Manufacturer: Texas Instruments; GENERIC_PART_NUMBER: SN74AHC00; Manufacturer_Part_Number: SN74AHC00RGYR; INDUSTRY_STD_PKG_TYPE: VQFN; FAMILY_NAME: NAND GATE; PIN_COUNT: 14; PACKAGE_DESIGNATOR: RGY; 3D_Library_Name: TI_AllParts_2012-12-25; Datasheet_URL: http://www.ti.com/lit/gpn/SN74AHC00; Vendor: Texas Instruments; Copyright: Copyright (C) 2015 Accelerated Designs. All rights reserved; Value: Value; Type: Type; RefDes: RefDes
footprint RGY14_2P05X2P05
footprint RGY0014A_V (QFN, 14-Leads, Body 3.5x3.5mm, Thermal Pad 2.05x2.05mm, TI Recommend)
part A pins: 1, 2
part B pins: 3, 4
part C pins: 5, 6
part D pins: 8, 9
part E pins: 10, 11
part F pins: 12, 13
part G pins: 7 GND, 14 VCC, 15 GND

## SN74AHC14RGYR_
designator U?
Imported; Manufacturer: Texas Instruments; GENERIC_PART_NUMBER: SN74AHC14; Manufacturer_Part_Number: SN74AHC14RGYR; INDUSTRY_STD_PKG_TYPE: VQFN; FAMILY_NAME: INVERTING BUFFER/DRIVER; PIN_COUNT: 14; PACKAGE_DESIGNATOR: RGY; 3D_Library_Name: TI_AllParts_2012-12-25; Datasheet_URL: http://www.ti.com/lit/gpn/SN74AHC14; Vendor: Texas Instruments; Copyright: Copyright (C) 2015 Accelerated Designs. All rights reserved; Value: Value; Type: Type; RefDes: RefDes
footprint RGY14_2P05X2P05
footprint RGY0014A_V (QFN, 14-Leads, Body 3.5x3.5mm, Thermal Pad 2.05x2.05mm, TI Recommend)
pins: 1 1A (in), 2 1Y (out), 3 2A (in), 4 2Y (out), 5 3A (in), 6 3Y (out), 7 GND (power), 8 4Y (out), 9 4A (in), 10 5Y (out), 11 5A (in), 12 6Y (out), 13 6A (in), 14 VCC (power), 15 EPAD

## SN74AHC74RGYR
designator U?
Imported; Manufacturer: Texas Instruments; GENERIC_PART_NUMBER: SN74AHC74; Manufacturer_Part_Number: SN74AHC74RGYR; INDUSTRY_STD_PKG_TYPE: VQFN; FAMILY_NAME: D-TYPE FLIP-FLOP; PIN_COUNT: 14; PACKAGE_DESIGNATOR: RGY; 3D_Library_Name: TI_AllParts_2012-12-25; Datasheet_URL: http://www.ti.com/lit/gpn/SN74AHC74; Vendor: Texas Instruments; Copyright: Copyright (C) 2015 Accelerated Designs. All rights reserved; Value: Value; Type: Type; RefDes: RefDes
footprint RGY14_2P05X2P05
footprint RGY0014A_V (QFN, 14-Leads, Body 3.5x3.5mm, Thermal Pad 2.05x2.05mm, TI Recommend)
pins: 1 *1CLR (in), 2 1D (in), 3 1CLK (in), 4 *1PRE (in), 5 1Q (out), 6 *1Q (out), 7 GND (power), 8 *2Q (out), 9 2Q (out), 10 *2PRE (in), 11 2CLK (in), 12 2D (in), 13 *2CLR (in), 14 VCC (power), 15 EPAD

## SN74HC138D
designator U?
3-Line to 8-Line Decoder / Demultiplexer; Published: 8-Jun-2000; LatestRevisionDate: 13-Apr-2006; LatestRevisionNote: IPC-7351 Footprint Added.; DatasheetVersion: May-1997; PackageVersion: Jan-1998; PackageReference: D016; Publisher: Altium Limited; PackageDescription: 16-Pin Small Outline Integrated Circuit 1.27 mm Pitch; Code_IPC: SOIC127P600-16; ComponentLink1Description: Manufacturer Link; ComponentLink1URL: http://www.ti.com/; ComponentLink2Description: Datasheet; ComponentLink2URL: http://www-s.ti.com/sc/ds/sn74hc138.pdf
footprint D016_N (SOIC, 16-Leads, Body 9.9x3.9mm, Pitch 1.27mm, IPC Medium Density)
footprint D016_L (SOIC, 16-Leads, Body 9.9x3.9mm, Pitch 1.27mm, IPC High Density)
footprint D016_M (SOIC, 16-Leads, Body 9.9x3.9mm, Pitch 1.27mm, IPC Low Density)
3D model D016 (16-Pin Small Outline Integrated Circuit 1.27 mm Pitch)
signal-integrity model SN74HC138D
pins: 1 A (in), 2 B (in), 3 C (in), 4 ~{OE}2A (in), 5 ~{OE}2B (in), 6 OE1 (in), 7 ~{Y}7 (out), 8 GND (power), 9 ~{Y}6 (out), 10 ~{Y}5 (out), 11 ~{Y}4 (out), 12 ~{Y}3 (out), 13 ~{Y}2 (out), 14 ~{Y}1 (out), 15 ~{Y}0 (out), 16 VCC (power)

## SN74LVC1G3157
designator DA?
pins: 1 B2, 2 GND, 3 B1, 4 A, 5 Vcc, 6 S

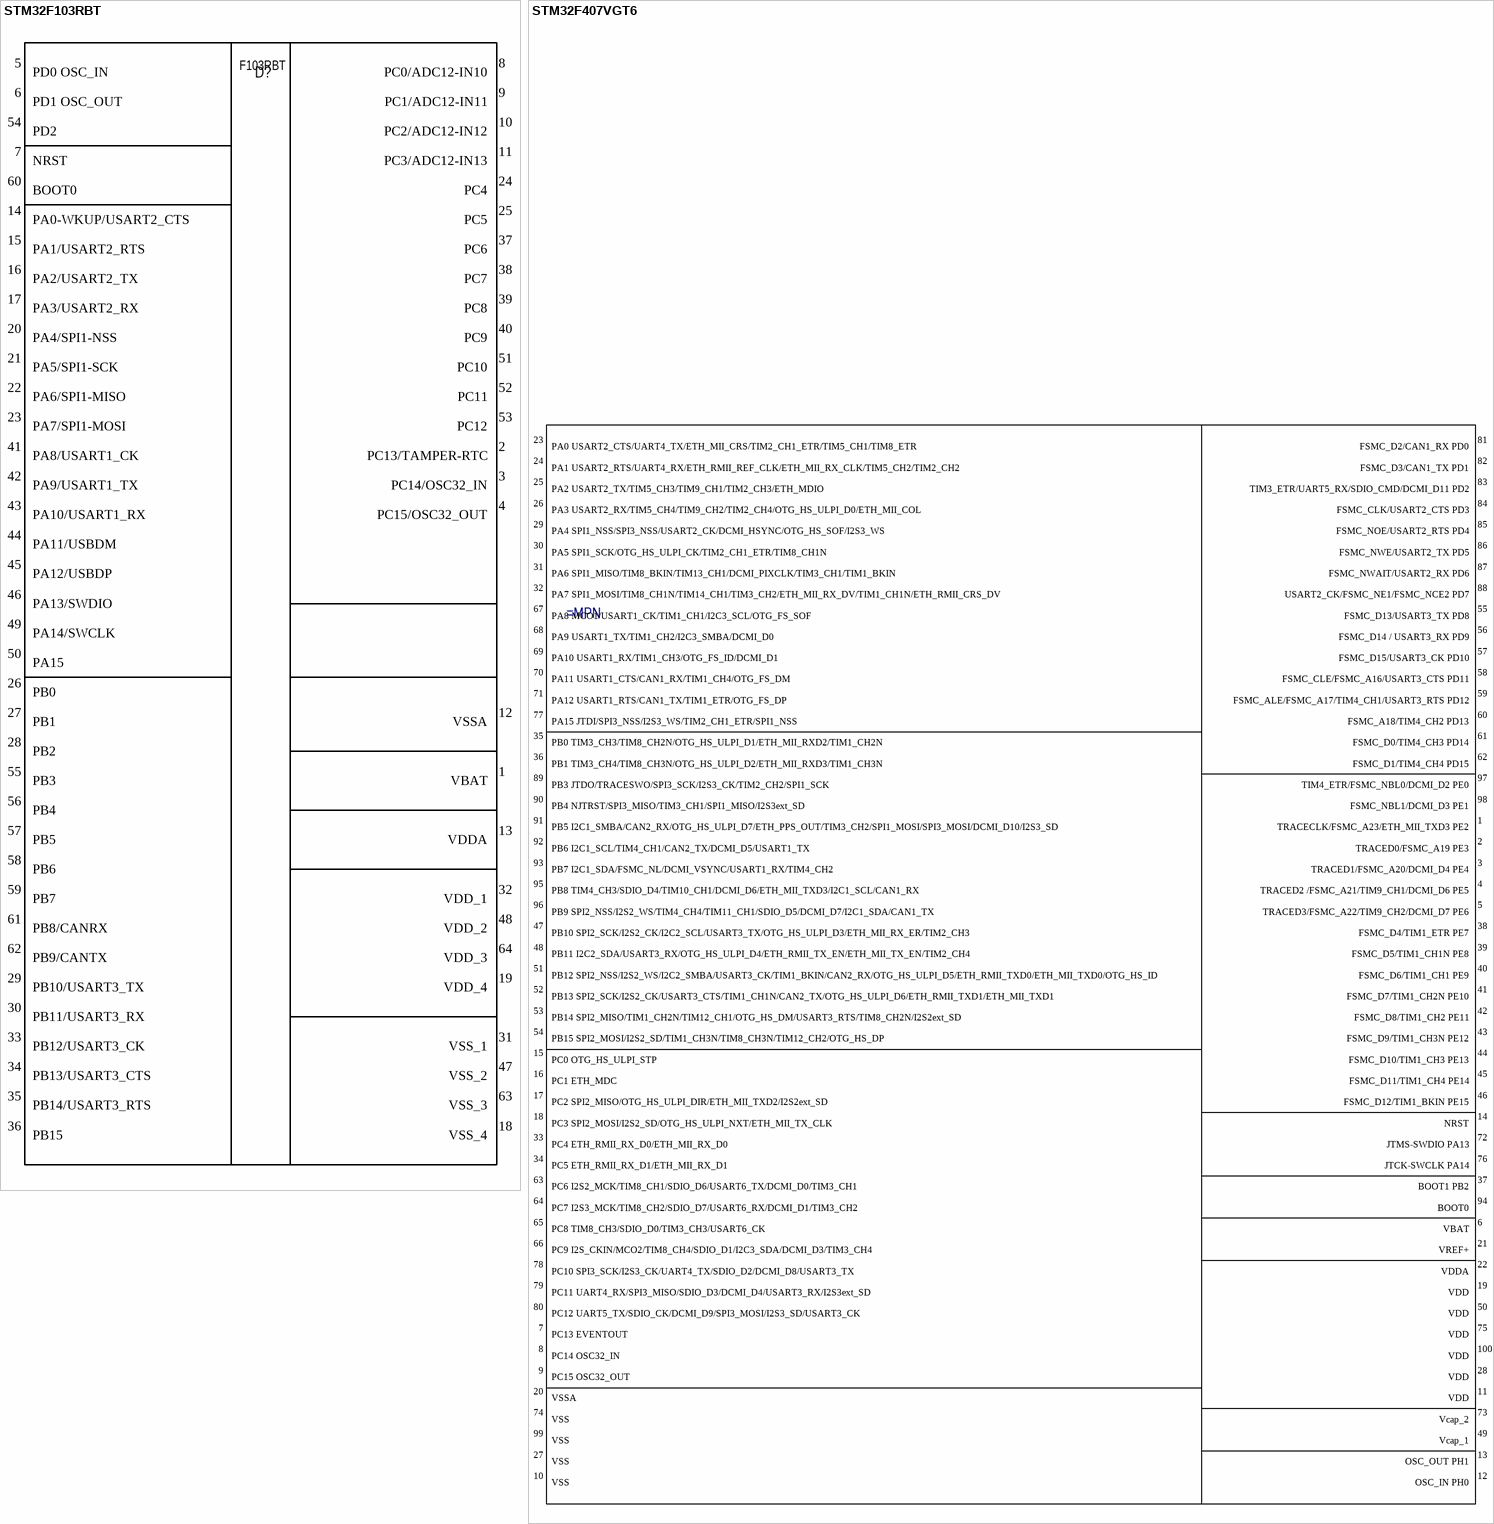
[diagram p4: symbols STM32F103RBT to STM32F407VGT6]

## STM32F103RBT
designator D?
pins: 1 VBAT, 2 PC13/TAMPER-RTC, 3 PC14/OSC32_IN, 4 PC15/OSC32_OUT, 5 PD0 OSC_IN, 6 PD1 OSC_OUT, 7 NRST, 8 PC0/ADC12-IN10, 9 PC1/ADC12-IN11, 10 PC2/ADC12-IN12, 11 PC3/ADC12-IN13, 12 VSSA, 13 VDDA, 14 PA0-WKUP/USART2_CTS, 15 PA1/USART2_RTS, 16 PA2/USART2_TX, 17 PA3/USART2_RX, 18 VSS_4, 19 VDD_4, 20 PA4/SPI1-NSS, 21 PA5/SPI1-SCK, 22 PA6/SPI1-MISO, 23 PA7/SPI1-MOSI, 24 PC4, 25 PC5, 26 PB0, 27 PB1, 28 PB2, 29 PB10/USART3_TX, 30 PB11/USART3_RX, 31 VSS_1, 32 VDD_1, 33 PB12/USART3_CK, 34 PB13/USART3_CTS, 35 PB14/USART3_RTS, 36 PB15, 37 PC6, 38 PC7, 39 PC8, 40 PC9, 41 PA8/USART1_CK, 42 PA9/USART1_TX, 43 PA10/USART1_RX, 44 PA11/USBDM, 45 PA12/USBDP, 46 PA13/SWDIO, 47 VSS_2, 48 VDD_2, 49 PA14/SWCLK, 50 PA15, 51 PC10, 52 PC11, 53 PC12, 54 PD2, 55 PB3, 56 PB4, 57 PB5, 58 PB6, 59 PB7, 60 BOOT0, 61 PB8/CANRX, 62 PB9/CANTX, 63 VSS_3, 64 VDD_3
text: F103RBT

## STM32F407VGT6
designator ?
Component Name: STM32F407VGT6; Component Package: LQFP-100; ComponentLink1Description: Документация; ComponentLink1Url: C:\DATASHEET\Microcontroller\STM32F407VGT6.pdf; HelpURL: C:\DATASHEET\Microcontroller\STM32F407_Reference.pdf
pins: 1 TRACECLK/FSMC_A23/ETH_MII_TXD3 PE2 "TRACECLK/ FSMC_A23 / ETH_MII_TXD3 / EVENTOUT", 2 TRACED0/FSMC_A19 PE3 "TRACED0/FSMC_A19/EVENTOUT", 3 TRACED1/FSMC_A20/DCMI_D4 PE4 "TRACED1/FSMC_A20 /  DCMI_D4/ EVENTOUT", 4 TRACED2 /FSMC_A21/TIM9_CH1/DCMI_D6 PE5 "TRACED2 / FSMC_A21 /  TIM9_CH1 / DCMI_D6 / EVENTOUT", 5 TRACED3/FSMC_A22/TIM9_CH2/DCMI_D7 PE6 "TRACED3 / FSMC_A22 /  TIM9_CH2 / DCMI_D7 / EVENTOUT", 6 VBAT, 7 PC13 EVENTOUT "EVENTOUT", 8 PC14 OSC32_IN "OSC32_IN", 9 PC15 OSC32_OUT "OSC32_OUT", 10 VSS, 11 VDD, 12 OSC_IN PH0 "OSC_IN", 13 OSC_OUT PH1 "OSC_OUT", 14 NRST, 15 PC0 OTG_HS_ULPI_STP "PC0 ADC12_IN10", 16 PC1 ETH_MDC "ETH_MDC", 17 PC2 SPI2_MISO/OTG_HS_ULPI_DIR/ETH_MII_TXD2/I2S2ext_SD "SPI2_MISO/OTG_HS_ULPI_DIR/ETH_MII_TXD2/I2S2ext_SD", 18 PC3 SPI2_MOSI/I2S2_SD/OTG_HS_ULPI_NXT/ETH_MII_TX_CLK "SPI2_MOSI / I2S2_SD /  OTG_HS_ULPI_NXT /  ETH_MII_TX_CLK", 19 VDD, 20 VSSA, 21 VREF+, 22 VDDA, 23 PA0 USART2_CTS/UART4_TX/ETH_MII_CRS/TIM2_CH1_ETR/TIM5_CH1/TIM8_ETR "USART2_CTS/  UART4_TX/  ETH_MII_CRS /  TIM2_CH1_ETR/  TIM5_CH1 / TIM8_ETR", 24 PA1 USART2_RTS/UART4_RX/ETH_RMII_REF_CLK/ETH_MII_RX_CLK/TIM5_CH2/TIM2_CH2 "USART2_RTS/UART4_RX/ETH_RMII_REF_CLK/ETH_MII_RX_CLK/TIM5_CH2/TIM2_CH2", 25 PA2 USART2_TX/TIM5_CH3/TIM9_CH1/TIM2_CH3/ETH_MDIO "USART2_TX/TIM5_CH3/TIM9_CH1/TIM2_CH3/ETH_MDIO", 26 PA3 USART2_RX/TIM5_CH4/TIM9_CH2/TIM2_CH4/OTG_HS_ULPI_D0/ETH_MII_COL "USART2_RX/TIM5_CH4/TIM9_CH2/TIM2_CH4/OTG_HS_ULPI_D0/ETH_MII_COL", 27 VSS, 28 VDD, 29 PA4 SPI1_NSS/SPI3_NSS/USART2_CK/DCMI_HSYNC/OTG_HS_SOF/I2S3_WS "SPI1_NSS/SPI3_NSS/USART2_CK/DCMI_HSYNC/OTG_HS_SOF/I2S3_WS", 30 PA5 SPI1_SCK/OTG_HS_ULPI_CK/TIM2_CH1_ETR/TIM8_CH1N "SPI1_SCK/OTG_HS_ULPI_CK/TIM2_CH1_ETR/TIM8_CH1N", 31 PA6 SPI1_MISO/TIM8_BKIN/TIM13_CH1/DCMI_PIXCLK/TIM3_CH1/TIM1_BKIN "SPI1_MISO/TIM8_BKIN/TIM13_CH1/DCMI_PIXCLK/TIM3_CH1/TIM1_BKIN", 32 PA7 SPI1_MOSI/TIM8_CH1N/TIM14_CH1/TIM3_CH2/ETH_MII_RX_DV/TIM1_CH1N/ETH_RMII_CRS_DV "SPI1_MOSI/TIM8_CH1N/TIM14_CH1/TIM3_CH2/ETH_MII_RX_DV/TIM1_CH1N/ETH_RMII_CRS_DV", 33 PC4 ETH_RMII_RX_D0/ETH_MII_RX_D0 "ETH_RMII_RX_D0/ETH_MII_RX_D0", 34 PC5 ETH_RMII_RX_D1/ETH_MII_RX_D1 "ETH_RMII_RX_D1/ETH_MII_RX_D1", 35 PB0 TIM3_CH3/TIM8_CH2N/OTG_HS_ULPI_D1/ETH_MII_RXD2/TIM1_CH2N "TIM3_CH3/TIM8_CH2N/OTG_HS_ULPI_D1/ETH_MII_RXD2/TIM1_CH2N", 36 PB1 TIM3_CH4/TIM8_CH3N/OTG_HS_ULPI_D2/ETH_MII_RXD3/TIM1_CH3N "TIM3_CH4/TIM8_CH3N/OTG_HS_ULPI_D2/ETH_MII_RXD3/TIM1_CH3N", 37 BOOT1 PB2 "PB2 BOOT1", 38 FSMC_D4/TIM1_ETR PE7 "FSMC_D4/TIM1_ETR", 39 FSMC_D5/TIM1_CH1N PE8 "FSMC_D5/TIM1_CH1N", 40 FSMC_D6/TIM1_CH1 PE9 "FSMC_D6/TIM1_CH1", 41 FSMC_D7/TIM1_CH2N PE10 "FSMC_D7/TIM1_CH2N", 42 FSMC_D8/TIM1_CH2 PE11 "FSMC_D8/TIM1_CH2", 43 FSMC_D9/TIM1_CH3N PE12 "FSMC_D9/TIM1_CH3N", 44 FSMC_D10/TIM1_CH3 PE13 "FSMC_D10/TIM1_CH3", 45 FSMC_D11/TIM1_CH4 PE14 "FSMC_D11/TIM1_CH4", 46 FSMC_D12/TIM1_BKIN PE15 "FSMC_D12/TIM1_BKIN", 47 PB10 SPI2_SCK/I2S2_CK/I2C2_SCL/USART3_TX/OTG_HS_ULPI_D3/ETH_MII_RX_ER/TIM2_CH3 "SPI2_SCK/I2S2_CK/I2C2_SCL/USART3_TX/OTG_HS_ULPI_D3/ETH_MII_RX_ER/TIM2_CH3", 48 PB11 I2C2_SDA/USART3_RX/OTG_HS_ULPI_D4/ETH_RMII_TX_EN/ETH_MII_TX_EN/TIM2_CH4 "I2C2_SDA/USART3_RX/OTG_HS_ULPI_D4/ETH_RMII_TX_EN/ETH_MII_TX_EN/TIM2_CH4", 49 Vcap_1, 50 VDD, 51 PB12 SPI2_NSS/I2S2_WS/I2C2_SMBA/USART3_CK/TIM1_BKIN/CAN2_RX/OTG_HS_ULPI_D5/ETH_RMII_TXD0/ETH_MII_TXD0/OTG_HS_ID "SPI2_NSS/I2S2_WS/I2C2_SMBA/USART3_CK/TIM1_BKIN/CAN2_RX/OTG_HS_ULPI_D5/ETH_RMII_TXD0/ETH_MII_TXD0/OTG_HS_ID", 52 PB13 SPI2_SCK/I2S2_CK/USART3_CTS/TIM1_CH1N/CAN2_TX/OTG_HS_ULPI_D6/ETH_RMII_TXD1/ETH_MII_TXD1 "SPI2_SCK/I2S2_CK/USART3_CTS/TIM1_CH1N/CAN2_TX/OTG_HS_ULPI_D6/ETH_RMII_TXD1/ETH_MII_TXD1", 53 PB14 SPI2_MISO/TIM1_CH2N/TIM12_CH1/OTG_HS_DM/USART3_RTS/TIM8_CH2N/I2S2ext_SD "SPI2_MISO/TIM1_CH2N/TIM12_CH1/OTG_HS_DM/USART3_RTS/TIM8_CH2N/I2S2ext_SD", 54 PB15 SPI2_MOSI/I2S2_SD/TIM1_CH3N/TIM8_CH3N/TIM12_CH2/OTG_HS_DP "SPI2_MOSI/I2S2_SD/TIM1_CH3N/TIM8_CH3N/TIM12_CH2/OTG_HS_DP", 55 FSMC_D13/USART3_TX PD8 "FSMC_D13/USART3_TX", 56 FSMC_D14 / USART3_RX PD9 "FSMC_D14/USART3_RX", 57 FSMC_D15/USART3_CK PD10 "FSMC_D15/USART3_CK", 58 FSMC_CLE/FSMC_A16/USART3_CTS PD11 "FSMC_CLE/FSMC_A16/USART3_CTS", 59 FSMC_ALE/FSMC_A17/TIM4_CH1/USART3_RTS PD12 "FSMC_ALE/FSMC_A17/TIM4_CH1/USART3_RTS", 60 FSMC_A18/TIM4_CH2 PD13 "FSMC_A18/TIM4_CH2", 61 FSMC_D0/TIM4_CH3 PD14 "FSMC_D0/TIM4_CH3", 62 FSMC_D1/TIM4_CH4 PD15 "FSMC_D1/TIM4_CH4", 63 PC6 I2S2_MCK/TIM8_CH1/SDIO_D6/USART6_TX/DCMI_D0/TIM3_CH1 "I2S2_MCK/TIM8_CH1/SDIO_D6/USART6_TX/DCMI_D0/TIM3_CH1", 64 PC7 I2S3_MCK/TIM8_CH2/SDIO_D7/USART6_RX/DCMI_D1/TIM3_CH2 "I2S3_MCK/TIM8_CH2/SDIO_D7/USART6_RX/DCMI_D1/TIM3_CH2", 65 PC8 TIM8_CH3/SDIO_D0/TIM3_CH3/USART6_CK "TIM8_CH3/SDIO_D0/TIM3_CH3/USART6_CK", 66 PC9 I2S_CKIN/MCO2/TIM8_CH4/SDIO_D1/I2C3_SDA/DCMI_D3/TIM3_CH4 "I2S_CKIN/MCO2/TIM8_CH4/SDIO_D1/I2C3_SDA/DCMI_D3/TIM3_CH4", 67 PA8 MCO1/USART1_CK/TIM1_CH1/I2C3_SCL/OTG_FS_SOF "MCO1/USART1_CK/TIM1_CH1/I2C3_SCL/OTG_FS_SOF", 68 PA9 USART1_TX/TIM1_CH2/I2C3_SMBA/DCMI_D0 "USART1_TX/TIM1_CH2/I2C3_SMBA/DCMI_D0", 69 PA10 USART1_RX/TIM1_CH3/OTG_FS_ID/DCMI_D1 "USART1_RX/TIM1_CH3/OTG_FS_ID/DCMI_D1", 70 PA11 USART1_CTS/CAN1_RX/TIM1_CH4/OTG_FS_DM "USART1_CTS/CAN1_RX/TIM1_CH4/OTG_FS_DM", 71 PA12 USART1_RTS/CAN1_TX/TIM1_ETR/OTG_FS_DP "USART1_RTS/CAN1_TX/TIM1_ETR/OTG_FS_DP", 72 JTMS-SWDIO PA13 "JTMS-SWDIO", 73 Vcap_2, 74 VSS, 75 VDD, 76 JTCK-SWCLK PA14 "JTCK-SWCLK", 77 PA15 JTDI/SPI3_NSS/I2S3_WS/TIM2_CH1_ETR/SPI1_NSS "JTDI/SPI3_NSS/I2S3_WS/TIM2_CH1_ETR/SPI1_NSS", 78 PC10 SPI3_SCK/I2S3_CK/UART4_TX/SDIO_D2/DCMI_D8/USART3_TX "SPI3_SCK/I2S3_CK/UART4_TX/SDIO_D2/DCMI_D8/USART3_TX", 79 PC11 UART4_RX/SPI3_MISO/SDIO_D3/DCMI_D4/USART3_RX/I2S3ext_SD "UART4_RX/SPI3_MISO/SDIO_D3/DCMI_D4/USART3_RX/I2S3ext_SD", 80 PC12 UART5_TX/SDIO_CK/DCMI_D9/SPI3_MOSI/I2S3_SD/USART3_CK "UART5_TX/SDIO_CK/DCMI_D9/SPI3_MOSI/I2S3_SD/USART3_CK", 81 FSMC_D2/CAN1_RX PD0 "FSMC_D2/CAN1_RX", 82 FSMC_D3/CAN1_TX PD1 "FSMC_D3/CAN1_TX", 83 TIM3_ETR/UART5_RX/SDIO_CMD/DCMI_D11 PD2 "TIM3_ETR/UART5_RX/SDIO_CMD/DCMI_D11", 84 FSMC_CLK/USART2_CTS PD3 "FSMC_CLK/USART2_CTS", 85 FSMC_NOE/USART2_RTS PD4 "FSMC_NOE/USART2_RTS", 86 FSMC_NWE/USART2_TX PD5 "FSMC_NWE/USART2_TX", 87 FSMC_NWAIT/USART2_RX PD6 "FSMC_NWAIT/USART2_RX", 88 USART2_CK/FSMC_NE1/FSMC_NCE2 PD7 "USART2_CK/FSMC_NE1/FSMC_NCE2", 89 PB3 JTDO/TRACESWO/SPI3_SCK/I2S3_CK/TIM2_CH2/SPI1_SCK "JTDO/TRACESWO/SPI3_SCK/I2S3_CK/TIM2_CH2/SPI1_SCK", 90 PB4 NJTRST/SPI3_MISO/TIM3_CH1/SPI1_MISO/I2S3ext_SD "NJTRST/SPI3_MISO/TIM3_CH1/SPI1_MISO/I2S3ext_SD", 91 PB5 I2C1_SMBA/CAN2_RX/OTG_HS_ULPI_D7/ETH_PPS_OUT/TIM3_CH2/SPI1_MOSI/SPI3_MOSI/DCMI_D10/I2S3_SD "I2C1_SMBA/CAN2_RX/OTG_HS_ULPI_D7/ETH_PPS_OUT/TIM3_CH2/SPI1_MOSI/SPI3_MOSI/DCMI_D10/I2S3_SD", 92 PB6 I2C1_SCL/TIM4_CH1/CAN2_TX/DCMI_D5/USART1_TX "I2C1_SCL/TIM4_CH1/CAN2_TX/DCMI_D5/USART1_TX", 93 PB7 I2C1_SDA/FSMC_NL/DCMI_VSYNC/USART1_RX/TIM4_CH2 "I2C1_SDA/FSMC_NL/DCMI_VSYNC/USART1_RX/TIM4_CH2", 94 BOOT0, 95 PB8 TIM4_CH3/SDIO_D4/TIM10_CH1/DCMI_D6/ETH_MII_TXD3/I2C1_SCL/CAN1_RX "TIM4_CH3/SDIO_D4/TIM10_CH1/DCMI_D6/ETH_MII_TXD3/I2C1_SCL/CAN1_RX", 96 PB9 SPI2_NSS/I2S2_WS/TIM4_CH4/TIM11_CH1/SDIO_D5/DCMI_D7/I2C1_SDA/CAN1_TX "SPI2_NSS/I2S2_WS/TIM4_CH4/TIM11_CH1/SDIO_D5/DCMI_D7/I2C1_SDA/CAN1_TX", 97 TIM4_ETR/FSMC_NBL0/DCMI_D2 PE0 "TIM4_ETR/FSMC_NBL0/DCMI_D2", 98 FSMC_NBL1/DCMI_D3 PE1 "FSMC_NBL1/DCMI_D3", 99 VSS, 100 VDD

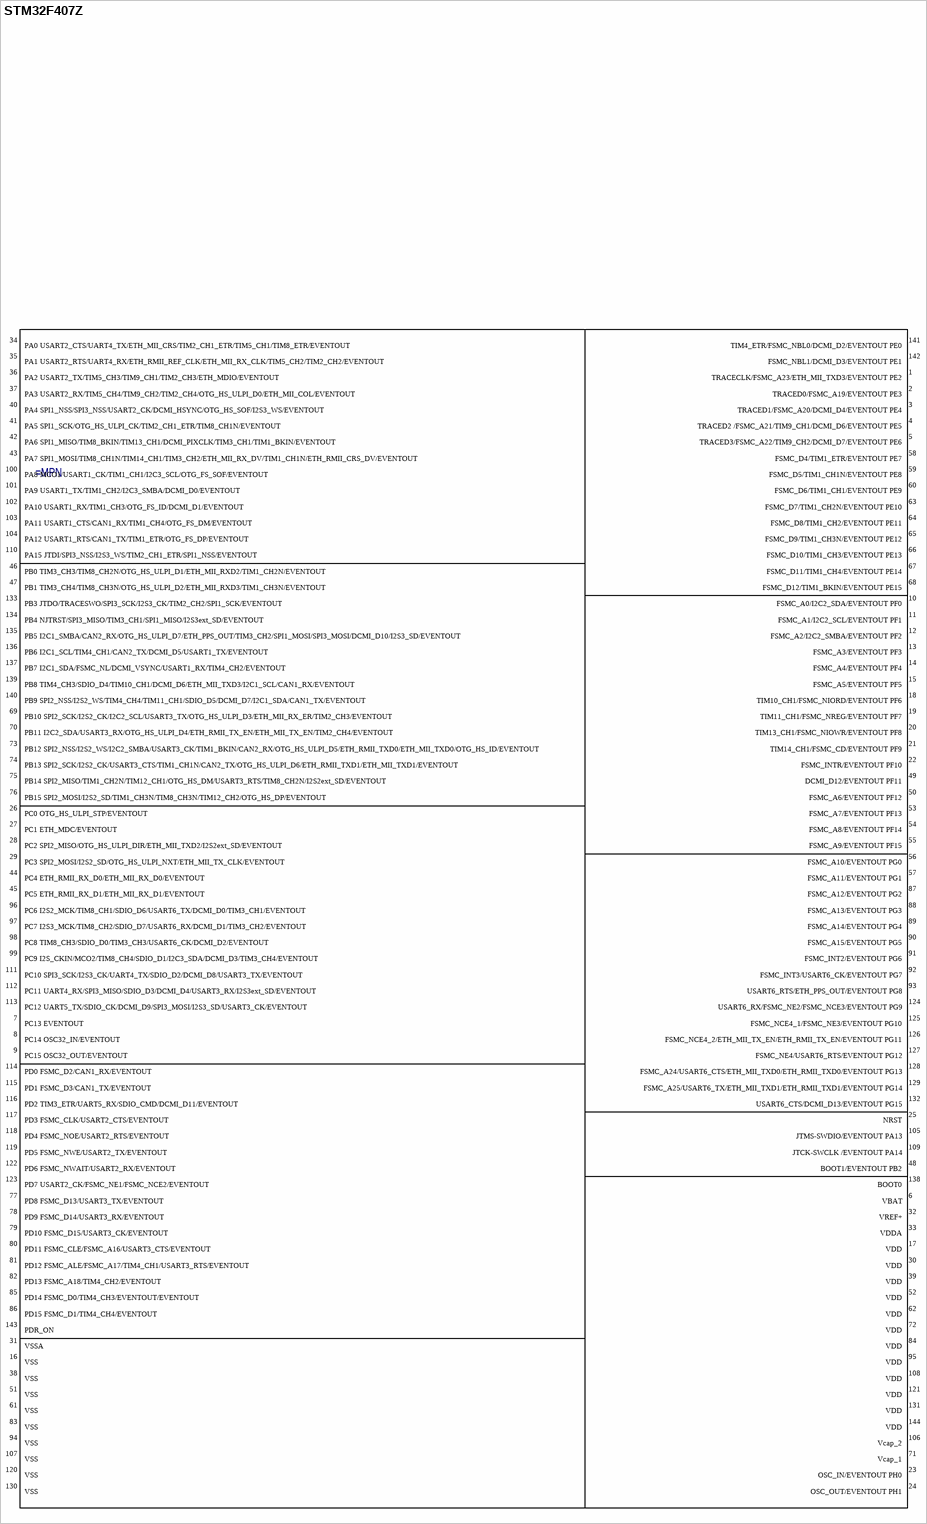
[diagram p5: symbol STM32F407Z]

## STM32F407Z
designator ?
Component Name: STM32F407VGT6; Component Package: LQFP-100; ComponentLink1Description: Документация; ComponentLink1Url: C:\DATASHEET\Microcontroller\STM32F407VGT6.pdf; HelpURL: C:\DATASHEET\Microcontroller\STM32F407_Reference.pdf
pins: 1 TRACECLK/FSMC_A23/ETH_MII_TXD3/EVENTOUT PE2 "TRACECLK/ FSMC_A23 / ETH_MII_TXD3 / EVENTOUT", 2 TRACED0/FSMC_A19/EVENTOUT PE3 "TRACED0/FSMC_A19/EVENTOUT", 3 TRACED1/FSMC_A20/DCMI_D4/EVENTOUT PE4 "TRACED1/FSMC_A20 /  DCMI_D4/ EVENTOUT", 4 TRACED2 /FSMC_A21/TIM9_CH1/DCMI_D6/EVENTOUT PE5 "TRACED2 / FSMC_A21 /  TIM9_CH1 / DCMI_D6 / EVENTOUT", 5 TRACED3/FSMC_A22/TIM9_CH2/DCMI_D7/EVENTOUT PE6 "TRACED3 / FSMC_A22 /  TIM9_CH2 / DCMI_D7 / EVENTOUT", 6 VBAT, 7 PC13 EVENTOUT "EVENTOUT", 8 PC14 OSC32_IN/EVENTOUT "OSC32_IN", 9 PC15 OSC32_OUT/EVENTOUT "OSC32_OUT", 10 FSMC_A0/I2C2_SDA/EVENTOUT PF0 "NRST", 11 FSMC_A1/I2C2_SCL/EVENTOUT PF1 "NRST", 12 FSMC_A2/I2C2_SMBA/EVENTOUT PF2 "NRST", 13 FSMC_A3/EVENTOUT PF3 "NRST", 14 FSMC_A4/EVENTOUT PF4 "NRST", 15 FSMC_A5/EVENTOUT PF5 "NRST", 16 VSS, 17 VDD, 18 TIM10_CH1/FSMC_NIORD/EVENTOUT PF6 "NRST", 19 TIM11_CH1/FSMC_NREG/EVENTOUT PF7 "NRST", 20 TIM13_CH1/FSMC_NIOWR/EVENTOUT PF8 "NRST", 21 TIM14_CH1/FSMC_CD/EVENTOUT PF9 "NRST", 22 FSMC_INTR/EVENTOUT PF10 "NRST", 23 OSC_IN/EVENTOUT PH0 "OSC_IN", 24 OSC_OUT/EVENTOUT PH1 "OSC_OUT", 25 NRST, 26 PC0 OTG_HS_ULPI_STP/EVENTOUT "PC0 ADC12_IN10", 27 PC1 ETH_MDC/EVENTOUT "ETH_MDC", 28 PC2 SPI2_MISO/OTG_HS_ULPI_DIR/ETH_MII_TXD2/I2S2ext_SD/EVENTOUT "SPI2_MISO/OTG_HS_ULPI_DIR/ETH_MII_TXD2/I2S2ext_SD", 29 PC3 SPI2_MOSI/I2S2_SD/OTG_HS_ULPI_NXT/ETH_MII_TX_CLK/EVENTOUT "SPI2_MOSI / I2S2_SD /  OTG_HS_ULPI_NXT /  ETH_MII_TX_CLK", 30 VDD, 31 VSSA, 32 VREF+, 33 VDDA, 34 PA0 USART2_CTS/UART4_TX/ETH_MII_CRS/TIM2_CH1_ETR/TIM5_CH1/TIM8_ETR/EVENTOUT "USART2_CTS/  UART4_TX/  ETH_MII_CRS /  TIM2_CH1_ETR/  TIM5_CH1 / TIM8_ETR/EVENTOUT", 35 PA1 USART2_RTS/UART4_RX/ETH_RMII_REF_CLK/ETH_MII_RX_CLK/TIM5_CH2/TIM2_CH2/EVENTOUT "USART2_RTS/UART4_RX/ETH_RMII_REF_CLK/ETH_MII_RX_CLK/TIM5_CH2/TIM2_CH2", 36 PA2 USART2_TX/TIM5_CH3/TIM9_CH1/TIM2_CH3/ETH_MDIO/EVENTOUT "USART2_TX/TIM5_CH3/TIM9_CH1/TIM2_CH3/ETH_MDIO", 37 PA3 USART2_RX/TIM5_CH4/TIM9_CH2/TIM2_CH4/OTG_HS_ULPI_D0/ETH_MII_COL/EVENTOUT "USART2_RX/TIM5_CH4/TIM9_CH2/TIM2_CH4/OTG_HS_ULPI_D0/ETH_MII_COL", 38 VSS, 39 VDD, 40 PA4 SPI1_NSS/SPI3_NSS/USART2_CK/DCMI_HSYNC/OTG_HS_SOF/I2S3_WS/EVENTOUT "SPI1_NSS/SPI3_NSS/USART2_CK/DCMI_HSYNC/OTG_HS_SOF/I2S3_WS", 41 PA5 SPI1_SCK/OTG_HS_ULPI_CK/TIM2_CH1_ETR/TIM8_CH1N/EVENTOUT "SPI1_SCK/OTG_HS_ULPI_CK/TIM2_CH1_ETR/TIM8_CH1N", 42 PA6 SPI1_MISO/TIM8_BKIN/TIM13_CH1/DCMI_PIXCLK/TIM3_CH1/TIM1_BKIN/EVENTOUT "SPI1_MISO/TIM8_BKIN/TIM13_CH1/DCMI_PIXCLK/TIM3_CH1/TIM1_BKIN", 43 PA7 SPI1_MOSI/TIM8_CH1N/TIM14_CH1/TIM3_CH2/ETH_MII_RX_DV/TIM1_CH1N/ETH_RMII_CRS_DV/EVENTOUT "SPI1_MOSI/TIM8_CH1N/TIM14_CH1/TIM3_CH2/ETH_MII_RX_DV/TIM1_CH1N/ETH_RMII_CRS_DV", 44 PC4 ETH_RMII_RX_D0/ETH_MII_RX_D0/EVENTOUT "ETH_RMII_RX_D0/ETH_MII_RX_D0", 45 PC5 ETH_RMII_RX_D1/ETH_MII_RX_D1/EVENTOUT "ETH_RMII_RX_D1/ETH_MII_RX_D1", 46 PB0 TIM3_CH3/TIM8_CH2N/OTG_HS_ULPI_D1/ETH_MII_RXD2/TIM1_CH2N/EVENTOUT "TIM3_CH3/TIM8_CH2N/OTG_HS_ULPI_D1/ETH_MII_RXD2/TIM1_CH2N", 47 PB1 TIM3_CH4/TIM8_CH3N/OTG_HS_ULPI_D2/ETH_MII_RXD3/TIM1_CH3N/EVENTOUT "TIM3_CH4/TIM8_CH3N/OTG_HS_ULPI_D2/ETH_MII_RXD3/TIM1_CH3N", 48 BOOT1/EVENTOUT PB2 "PB2 BOOT1", 49 DCMI_D12/EVENTOUT PF11 "NRST", 50 FSMC_A6/EVENTOUT PF12 "NRST", 51 VSS, 52 VDD, 53 FSMC_A7/EVENTOUT PF13 "NRST", 54 FSMC_A8/EVENTOUT PF14 "NRST", 55 FSMC_A9/EVENTOUT PF15 "NRST", 56 FSMC_A10/EVENTOUT PG0 "NRST", 57 FSMC_A11/EVENTOUT PG1 "NRST", 58 FSMC_D4/TIM1_ETR/EVENTOUT PE7 "FSMC_D4/TIM1_ETR", 59 FSMC_D5/TIM1_CH1N/EVENTOUT PE8 "FSMC_D5/TIM1_CH1N", 60 FSMC_D6/TIM1_CH1/EVENTOUT PE9 "FSMC_D6/TIM1_CH1", 61 VSS, 62 VDD, 63 FSMC_D7/TIM1_CH2N/EVENTOUT PE10 "FSMC_D7/TIM1_CH2N", 64 FSMC_D8/TIM1_CH2/EVENTOUT PE11 "FSMC_D8/TIM1_CH2", 65 FSMC_D9/TIM1_CH3N/EVENTOUT PE12 "FSMC_D9/TIM1_CH3N", 66 FSMC_D10/TIM1_CH3/EVENTOUT PE13 "FSMC_D10/TIM1_CH3", 67 FSMC_D11/TIM1_CH4/EVENTOUT PE14 "FSMC_D11/TIM1_CH4", 68 FSMC_D12/TIM1_BKIN/EVENTOUT PE15 "FSMC_D12/TIM1_BKIN", 69 PB10 SPI2_SCK/I2S2_CK/I2C2_SCL/USART3_TX/OTG_HS_ULPI_D3/ETH_MII_RX_ER/TIM2_CH3/EVENTOUT "SPI2_SCK/I2S2_CK/I2C2_SCL/USART3_TX/OTG_HS_ULPI_D3/ETH_MII_RX_ER/TIM2_CH3", 70 PB11 I2C2_SDA/USART3_RX/OTG_HS_ULPI_D4/ETH_RMII_TX_EN/ETH_MII_TX_EN/TIM2_CH4/EVENTOUT "I2C2_SDA/USART3_RX/OTG_HS_ULPI_D4/ETH_RMII_TX_EN/ETH_MII_TX_EN/TIM2_CH4", 71 Vcap_1, 72 VDD, 73 PB12 SPI2_NSS/I2S2_WS/I2C2_SMBA/USART3_CK/TIM1_BKIN/CAN2_RX/OTG_HS_ULPI_D5/ETH_RMII_TXD0/ETH_MII_TXD0/OTG_HS_ID/EVENTOUT "SPI2_NSS/I2S2_WS/I2C2_SMBA/USART3_CK/TIM1_BKIN/CAN2_RX/OTG_HS_ULPI_D5/ETH_RMII_TXD0/ETH_MII_TXD0/OTG_HS_ID", 74 PB13 SPI2_SCK/I2S2_CK/USART3_CTS/TIM1_CH1N/CAN2_TX/OTG_HS_ULPI_D6/ETH_RMII_TXD1/ETH_MII_TXD1/EVENTOUT "SPI2_SCK/I2S2_CK/USART3_CTS/TIM1_CH1N/CAN2_TX/OTG_HS_ULPI_D6/ETH_RMII_TXD1/ETH_MII_TXD1", 75 PB14 SPI2_MISO/TIM1_CH2N/TIM12_CH1/OTG_HS_DM/USART3_RTS/TIM8_CH2N/I2S2ext_SD/EVENTOUT "SPI2_MISO/TIM1_CH2N/TIM12_CH1/OTG_HS_DM/USART3_RTS/TIM8_CH2N/I2S2ext_SD", 76 PB15 SPI2_MOSI/I2S2_SD/TIM1_CH3N/TIM8_CH3N/TIM12_CH2/OTG_HS_DP/EVENTOUT "SPI2_MOSI/I2S2_SD/TIM1_CH3N/TIM8_CH3N/TIM12_CH2/OTG_HS_DP", 77 PD8 FSMC_D13/USART3_TX/EVENTOUT "FSMC_D13/USART3_TX", 78 PD9 FSMC_D14/USART3_RX/EVENTOUT "FSMC_D14/USART3_RX", 79 PD10 FSMC_D15/USART3_CK/EVENTOUT "FSMC_D15/USART3_CK", 80 PD11 FSMC_CLE/FSMC_A16/USART3_CTS/EVENTOUT "FSMC_CLE/FSMC_A16/USART3_CTS", 81 PD12 FSMC_ALE/FSMC_A17/TIM4_CH1/USART3_RTS/EVENTOUT "FSMC_ALE/FSMC_A17/TIM4_CH1/USART3_RTS", 82 PD13 FSMC_A18/TIM4_CH2/EVENTOUT "FSMC_A18/TIM4_CH2", 83 VSS, 84 VDD, 85 PD14 FSMC_D0/TIM4_CH3/EVENTOUT/EVENTOUT "FSMC_D0/TIM4_CH3", 86 PD15 FSMC_D1/TIM4_CH4/EVENTOUT "FSMC_D1/TIM4_CH4", 87 FSMC_A12/EVENTOUT PG2 "NRST", 88 FSMC_A13/EVENTOUT PG3 "NRST", 89 FSMC_A14/EVENTOUT PG4 "NRST", 90 FSMC_A15/EVENTOUT PG5 "NRST", 91 FSMC_INT2/EVENTOUT PG6 "NRST", 92 FSMC_INT3/USART6_CK/EVENTOUT PG7 "NRST", 93 USART6_RTS/ETH_PPS_OUT/EVENTOUT PG8 "NRST", 94 VSS, 95 VDD, 96 PC6 I2S2_MCK/TIM8_CH1/SDIO_D6/USART6_TX/DCMI_D0/TIM3_CH1/EVENTOUT "I2S2_MCK/TIM8_CH1/SDIO_D6/USART6_TX/DCMI_D0/TIM3_CH1", 97 PC7 I2S3_MCK/TIM8_CH2/SDIO_D7/USART6_RX/DCMI_D1/TIM3_CH2/EVENTOUT "I2S3_MCK/TIM8_CH2/SDIO_D7/USART6_RX/DCMI_D1/TIM3_CH2", 98 PC8 TIM8_CH3/SDIO_D0/TIM3_CH3/USART6_CK/DCMI_D2/EVENTOUT "TIM8_CH3/SDIO_D0/TIM3_CH3/USART6_CK", 99 PC9 I2S_CKIN/MCO2/TIM8_CH4/SDIO_D1/I2C3_SDA/DCMI_D3/TIM3_CH4/EVENTOUT "I2S_CKIN/MCO2/TIM8_CH4/SDIO_D1/I2C3_SDA/DCMI_D3/TIM3_CH4", 100 PA8 MCO1/USART1_CK/TIM1_CH1/I2C3_SCL/OTG_FS_SOF/EVENTOUT "MCO1/USART1_CK/TIM1_CH1/I2C3_SCL/OTG_FS_SOF", 101 PA9 USART1_TX/TIM1_CH2/I2C3_SMBA/DCMI_D0/EVENTOUT "USART1_TX/TIM1_CH2/I2C3_SMBA/DCMI_D0", 102 PA10 USART1_RX/TIM1_CH3/OTG_FS_ID/DCMI_D1/EVENTOUT "USART1_RX/TIM1_CH3/OTG_FS_ID/DCMI_D1", 103 PA11 USART1_CTS/CAN1_RX/TIM1_CH4/OTG_FS_DM/EVENTOUT "USART1_CTS/CAN1_RX/TIM1_CH4/OTG_FS_DM", 104 PA12 USART1_RTS/CAN1_TX/TIM1_ETR/OTG_FS_DP/EVENTOUT "USART1_RTS/CAN1_TX/TIM1_ETR/OTG_FS_DP", 105 JTMS-SWDIO/EVENTOUT PA13 "JTMS-SWDIO", 106 Vcap_2, 107 VSS, 108 VDD, 109 JTCK-SWCLK /EVENTOUT PA14 "JTCK-SWCLK", 110 PA15 JTDI/SPI3_NSS/I2S3_WS/TIM2_CH1_ETR/SPI1_NSS/EVENTOUT "JTDI/SPI3_NSS/I2S3_WS/TIM2_CH1_ETR/SPI1_NSS", 111 PC10 SPI3_SCK/I2S3_CK/UART4_TX/SDIO_D2/DCMI_D8/USART3_TX/EVENTOUT "SPI3_SCK/I2S3_CK/UART4_TX/SDIO_D2/DCMI_D8/USART3_TX", 112 PC11 UART4_RX/SPI3_MISO/SDIO_D3/DCMI_D4/USART3_RX/I2S3ext_SD/EVENTOUT "UART4_RX/SPI3_MISO/SDIO_D3/DCMI_D4/USART3_RX/I2S3ext_SD", 113 PC12 UART5_TX/SDIO_CK/DCMI_D9/SPI3_MOSI/I2S3_SD/USART3_CK/EVENTOUT "UART5_TX/SDIO_CK/DCMI_D9/SPI3_MOSI/I2S3_SD/USART3_CK", 114 PD0 FSMC_D2/CAN1_RX/EVENTOUT "FSMC_D2/CAN1_RX", 115 PD1 FSMC_D3/CAN1_TX/EVENTOUT "FSMC_D3/CAN1_TX", 116 PD2 TIM3_ETR/UART5_RX/SDIO_CMD/DCMI_D11/EVENTOUT "TIM3_ETR/UART5_RX/SDIO_CMD/DCMI_D11", 117 PD3 FSMC_CLK/USART2_CTS/EVENTOUT "FSMC_CLK/USART2_CTS", 118 PD4 FSMC_NOE/USART2_RTS/EVENTOUT "FSMC_NOE/USART2_RTS", 119 PD5 FSMC_NWE/USART2_TX/EVENTOUT "FSMC_NWE/USART2_TX", 120 VSS, 121 VDD, 122 PD6 FSMC_NWAIT/USART2_RX/EVENTOUT "FSMC_NWAIT/USART2_RX", 123 PD7 USART2_CK/FSMC_NE1/FSMC_NCE2/EVENTOUT "USART2_CK/FSMC_NE1/FSMC_NCE2", 124 USART6_RX/FSMC_NE2/FSMC_NCE3/EVENTOUT PG9 "NRST", 125 FSMC_NCE4_1/FSMC_NE3/EVENTOUT PG10 "NRST", 126 FSMC_NCE4_2/ETH_MII_TX_EN/ETH_RMII_TX_EN/EVENTOUT PG11 "NRST", 127 FSMC_NE4/USART6_RTS/EVENTOUT PG12 "NRST", 128 FSMC_A24/USART6_CTS/ETH_MII_TXD0/ETH_RMII_TXD0/EVENTOUT PG13 "NRST", 129 FSMC_A25/USART6_TX/ETH_MII_TXD1/ETH_RMII_TXD1/EVENTOUT PG14 "NRST", 130 VSS, 131 VDD, 132 USART6_CTS/DCMI_D13/EVENTOUT PG15 "NRST", 133 PB3 JTDO/TRACESWO/SPI3_SCK/I2S3_CK/TIM2_CH2/SPI1_SCK/EVENTOUT "JTDO/TRACESWO/SPI3_SCK/I2S3_CK/TIM2_CH2/SPI1_SCK", 134 PB4 NJTRST/SPI3_MISO/TIM3_CH1/SPI1_MISO/I2S3ext_SD/EVENTOUT "NJTRST/SPI3_MISO/TIM3_CH1/SPI1_MISO/I2S3ext_SD", 135 PB5 I2C1_SMBA/CAN2_RX/OTG_HS_ULPI_D7/ETH_PPS_OUT/TIM3_CH2/SPI1_MOSI/SPI3_MOSI/DCMI_D10/I2S3_SD/EVENTOUT "I2C1_SMBA/CAN2_RX/OTG_HS_ULPI_D7/ETH_PPS_OUT/TIM3_CH2/SPI1_MOSI/SPI3_MOSI/DCMI_D10/I2S3_SD", 136 PB6 I2C1_SCL/TIM4_CH1/CAN2_TX/DCMI_D5/USART1_TX/EVENTOUT "I2C1_SCL/TIM4_CH1/CAN2_TX/DCMI_D5/USART1_TX", 137 PB7 I2C1_SDA/FSMC_NL/DCMI_VSYNC/USART1_RX/TIM4_CH2/EVENTOUT "I2C1_SDA/FSMC_NL/DCMI_VSYNC/USART1_RX/TIM4_CH2", 138 BOOT0, 139 PB8 TIM4_CH3/SDIO_D4/TIM10_CH1/DCMI_D6/ETH_MII_TXD3/I2C1_SCL/CAN1_RX/EVENTOUT "TIM4_CH3/SDIO_D4/TIM10_CH1/DCMI_D6/ETH_MII_TXD3/I2C1_SCL/CAN1_RX", 140 PB9 SPI2_NSS/I2S2_WS/TIM4_CH4/TIM11_CH1/SDIO_D5/DCMI_D7/I2C1_SDA/CAN1_TX/EVENTOUT "SPI2_NSS/I2S2_WS/TIM4_CH4/TIM11_CH1/SDIO_D5/DCMI_D7/I2C1_SDA/CAN1_TX", 141 TIM4_ETR/FSMC_NBL0/DCMI_D2/EVENTOUT PE0 "TIM4_ETR/FSMC_NBL0/DCMI_D2", 142 FSMC_NBL1/DCMI_D3/EVENTOUT PE1 "FSMC_NBL1/DCMI_D3", 143 PDR_ON "VDD", 144 VDD

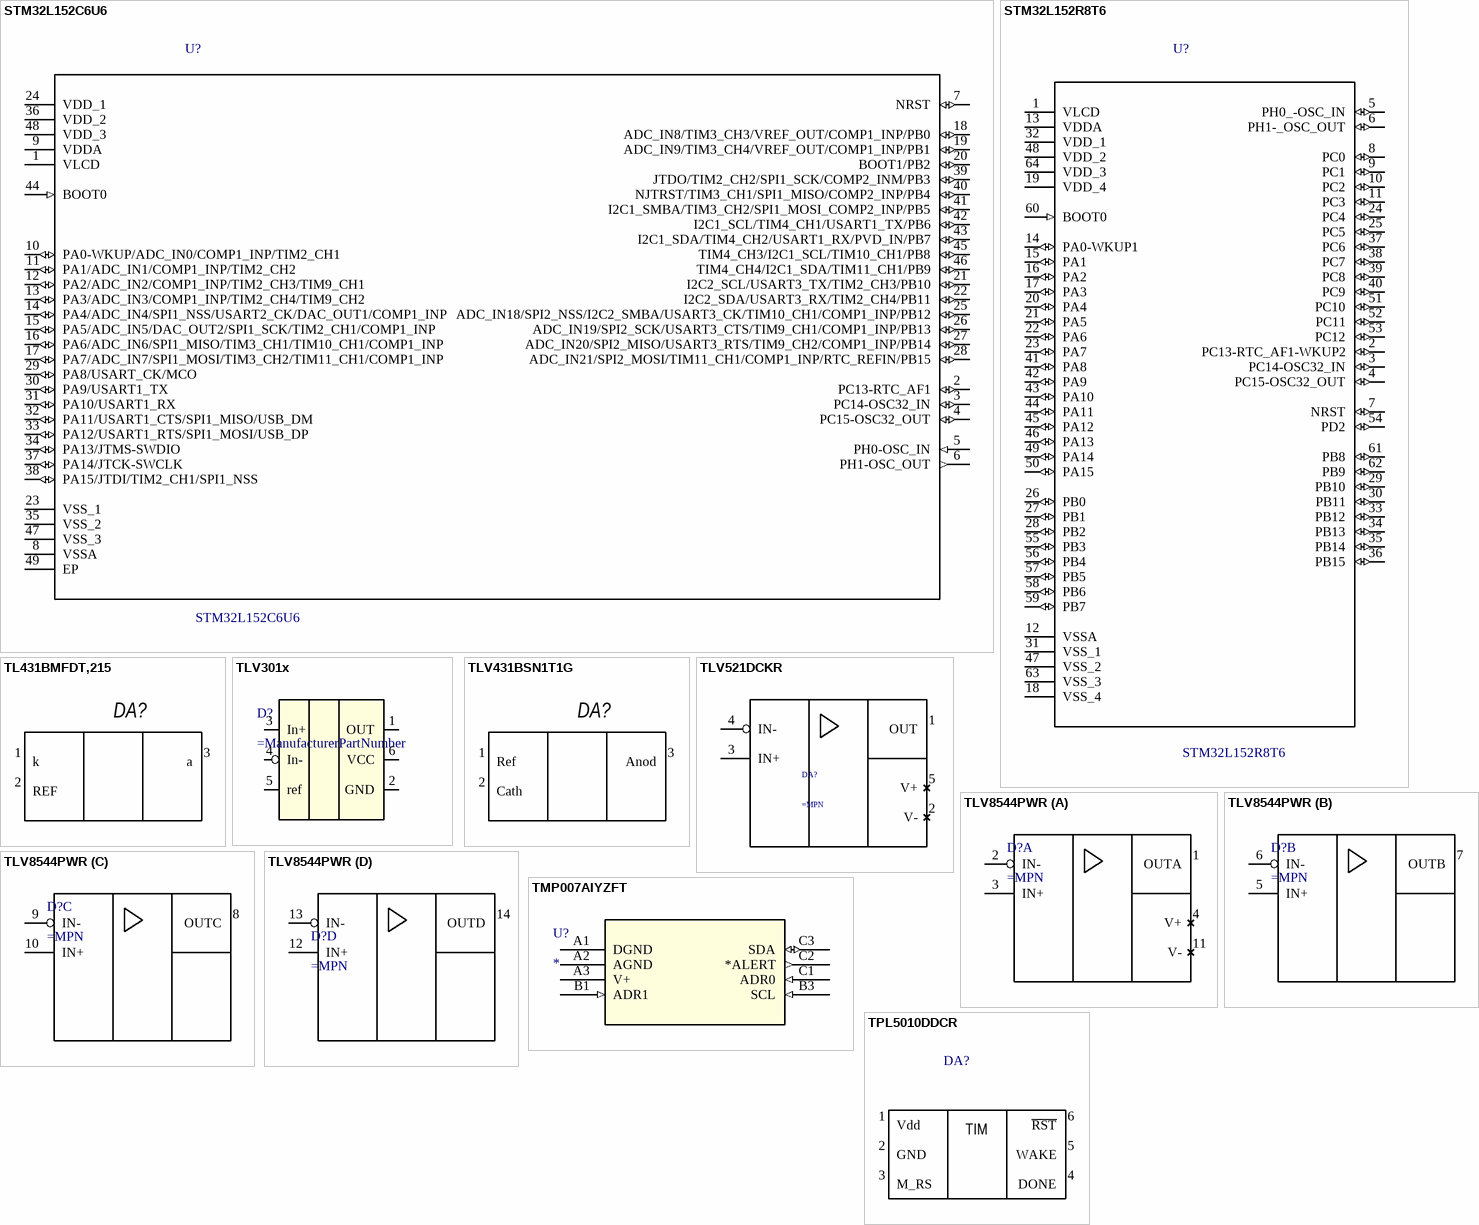
[diagram p6: symbols STM32L152C6U6 to TPL5010DDCR]

## STM32L152C6U6
designator U?
MCU 32-bit STM32L ARM Cortex M3 RISC 32KB Flash 2.5V/3.3V 48-Pin UFQFPN EP Tray; MF: STMicroelectronics; SnapEDA_Link: https://www.snapeda.com/parts/STM32L152C6U6/STMicroelectronics/view-part/?ref=snap; Availability: Good; MP: STM32L152C6U6; Package: UFQFN-48 STMicroelectronics; Price: 2.90 USD; Value: *
footprint QFN50P700X700X60-49N
pins: 1 VLCD (power), 2 PC13-RTC_AF1 (io), 3 PC14-OSC32_IN (io), 4 PC15-OSC32_OUT (io), 5 PH0-OSC_IN (in), 6 PH1-OSC_OUT (out), 7 NRST (io), 8 VSSA (power), 9 VDDA (power), 10 PA0-WKUP/ADC_IN0/COMP1_INP/TIM2_CH1 (io), 11 PA1/ADC_IN1/COMP1_INP/TIM2_CH2 (io), 12 PA2/ADC_IN2/COMP1_INP/TIM2_CH3/TIM9_CH1 (io), 13 PA3/ADC_IN3/COMP1_INP/TIM2_CH4/TIM9_CH2 (io), 14 PA4/ADC_IN4/SPI1_NSS/USART2_CK/DAC_OUT1/COMP1_INP (io), 15 PA5/ADC_IN5/DAC_OUT2/SPI1_SCK/TIM2_CH1/COMP1_INP (io), 16 PA6/ADC_IN6/SPI1_MISO/TIM3_CH1/TIM10_CH1/COMP1_INP (io), 17 PA7/ADC_IN7/SPI1_MOSI/TIM3_CH2/TIM11_CH1/COMP1_INP (io), 18 ADC_IN8/TIM3_CH3/VREF_OUT/COMP1_INP/PB0 (io), 19 ADC_IN9/TIM3_CH4/VREF_OUT/COMP1_INP/PB1 (io), 20 BOOT1/PB2 (io), 21 I2C2_SCL/USART3_TX/TIM2_CH3/PB10 (io), 22 I2C2_SDA/USART3_RX/TIM2_CH4/PB11 (io), 23 VSS_1 (power), 24 VDD_1 (power), 25 ADC_IN18/SPI2_NSS/I2C2_SMBA/USART3_CK/TIM10_CH1/COMP1_INP/PB12 (io), 26 ADC_IN19/SPI2_SCK/USART3_CTS/TIM9_CH1/COMP1_INP/PB13 (io), 27 ADC_IN20/SPI2_MISO/USART3_RTS/TIM9_CH2/COMP1_INP/PB14 (io), 28 ADC_IN21/SPI2_MOSI/TIM11_CH1/COMP1_INP/RTC_REFIN/PB15 (io), 29 PA8/USART_CK/MCO (io), 30 PA9/USART1_TX (io), 31 PA10/USART1_RX (io), 32 PA11/USART1_CTS/SPI1_MISO/USB_DM (io), 33 PA12/USART1_RTS/SPI1_MOSI/USB_DP (io), 34 PA13/JTMS-SWDIO (io), 35 VSS_2 (power), 36 VDD_2 (power), 37 PA14/JTCK-SWCLK (io), 38 PA15/JTDI/TIM2_CH1/SPI1_NSS (io), 39 JTDO/TIM2_CH2/SPI1_SCK/COMP2_INM/PB3 (io), 40 NJTRST/TIM3_CH1/SPI1_MISO/COMP2_INP/PB4 (io), 41 I2C1_SMBA/TIM3_CH2/SPI1_MOSI_COMP2_INP/PB5 (io), 42 I2C1_SCL/TIM4_CH1/USART1_TX/PB6 (io), 43 I2C1_SDA/TIM4_CH2/USART1_RX/PVD_IN/PB7 (io), 44 BOOT0 (in), 45 TIM4_CH3/I2C1_SCL/TIM10_CH1/PB8 (io), 46 TIM4_CH4/I2C1_SDA/TIM11_CH1/PB9 (io), 47 VSS_3 (power), 48 VDD_3 (power), 49 EP

## STM32L152R8T6
designator U?
STM32 Series 32-bit 64 kB Flash 10 kB RAM ARM Based Microcontroller - LQFP-64; MF: *; SnapEDA_Link: https://www.snapeda.com/parts/STM32L152R8T6/STMicroelectronics/view-part/?ref=snap; Availability: Warning; MP: STM32L152R8T6; Package: LQFP-64 STMicroelectronics; Price: 3.50 USD; Value: *
footprint QFP50P1200X1200X160-64N
pins: 1 VLCD (power), 2 PC13-RTC_AF1-WKUP2 (io), 3 PC14-OSC32_IN (io), 4 PC15-OSC32_OUT (io), 5 PH0_-OSC_IN (io), 6 PH1-_OSC_OUT (io), 7 NRST (io), 8 PC0 (io), 9 PC1 (io), 10 PC2 (io), 11 PC3 (io), 12 VSSA (power), 13 VDDA (power), 14 PA0-WKUP1 (io), 15 PA1 (io), 16 PA2 (io), 17 PA3 (io), 18 VSS_4 (power), 19 VDD_4 (power), 20 PA4 (io), 21 PA5 (io), 22 PA6 (io), 23 PA7 (io), 24 PC4 (io), 25 PC5 (io), 26 PB0 (io), 27 PB1 (io), 28 PB2 (io), 29 PB10 (io), 30 PB11 (io), 31 VSS_1 (power), 32 VDD_1 (power), 33 PB12 (io), 34 PB13 (io), 35 PB14 (io), 36 PB15 (io), 37 PC6 (io), 38 PC7 (io), 39 PC8 (io), 40 PC9 (io), 41 PA8 (io), 42 PA9 (io), 43 PA10 (io), 44 PA11 (io), 45 PA12 (io), 46 PA13 (io), 47 VSS_2 (power), 48 VDD_2 (power), 49 PA14 (io), 50 PA15 (io), 51 PC10 (io), 52 PC11 (io), 53 PC12 (io), 54 PD2 (io), 55 PB3 (io), 56 PB4 (io), 57 PB5 (io), 58 PB6 (io), 59 PB7 (io), 60 BOOT0 (in), 61 PB8 (io), 62 PB9 (io), 63 VSS_3 (power), 64 VDD_3 (power)

## TL431BMFDT,215
designator DA?  (value not drawn)
pins: 1 k, 2 REF, 3 a

## TLV301x
designator D?
pins: 1 OUT, 2 GND, 3 In+, 4 In-, 5 ref, 6 VCC

## TLV431BSN1T1G
designator DA?  (value not drawn)
pins: 1 Ref, 2 Cath, 3 Anod

## TLV521DCKR
designator DA?
pins: 1 OUT, 2 V-, 3 IN+, 4 IN-, 5 V+

## TLV8544PWR
designator D?
part A pins: 1 OUTA, 2 IN-, 3 IN+, 4 V+, 11 V-
part B pins: 5 IN+, 6 IN-, 7 OUTB
part C pins: 8 OUTС, 9 IN-, 10 IN+
part D pins: 12 IN+, 13 IN-, 14 OUTD

## TMP007AIYZFT
designator U?
Imported; Manufacturer_Part_Number: tmp007aiyzft; Vendor: Texas Instruments; C: Copyright (C) 2016 Accelerated Designs. All rights reserved; Copyright: Copyright (C) 2016 Accelerated Designs. All rights reserved; Value: Value; Type: Type; RefDes: RefDes
footprint YZF8
pins: A1 DGND (power), A2 AGND (power), A3 V+ (power), B1 ADR1 (in), B3 SCL (in), C1 ADR0 (in), C2 *ALERT (out), C3 SDA (io)

## TPL5010DDCR
designator DA?
pins: 1 Vdd, 2 GND, 3 M_RS, 4 DONE, 5 WAKE, 6 ~{RST}
text: TIM